# Altium integrated library TI Digital Signal Processor 16-Bit.IntLib: 40 symbols (part 1 of 2)
Pins are listed as number, name and electrical type; pins without a type are passive.

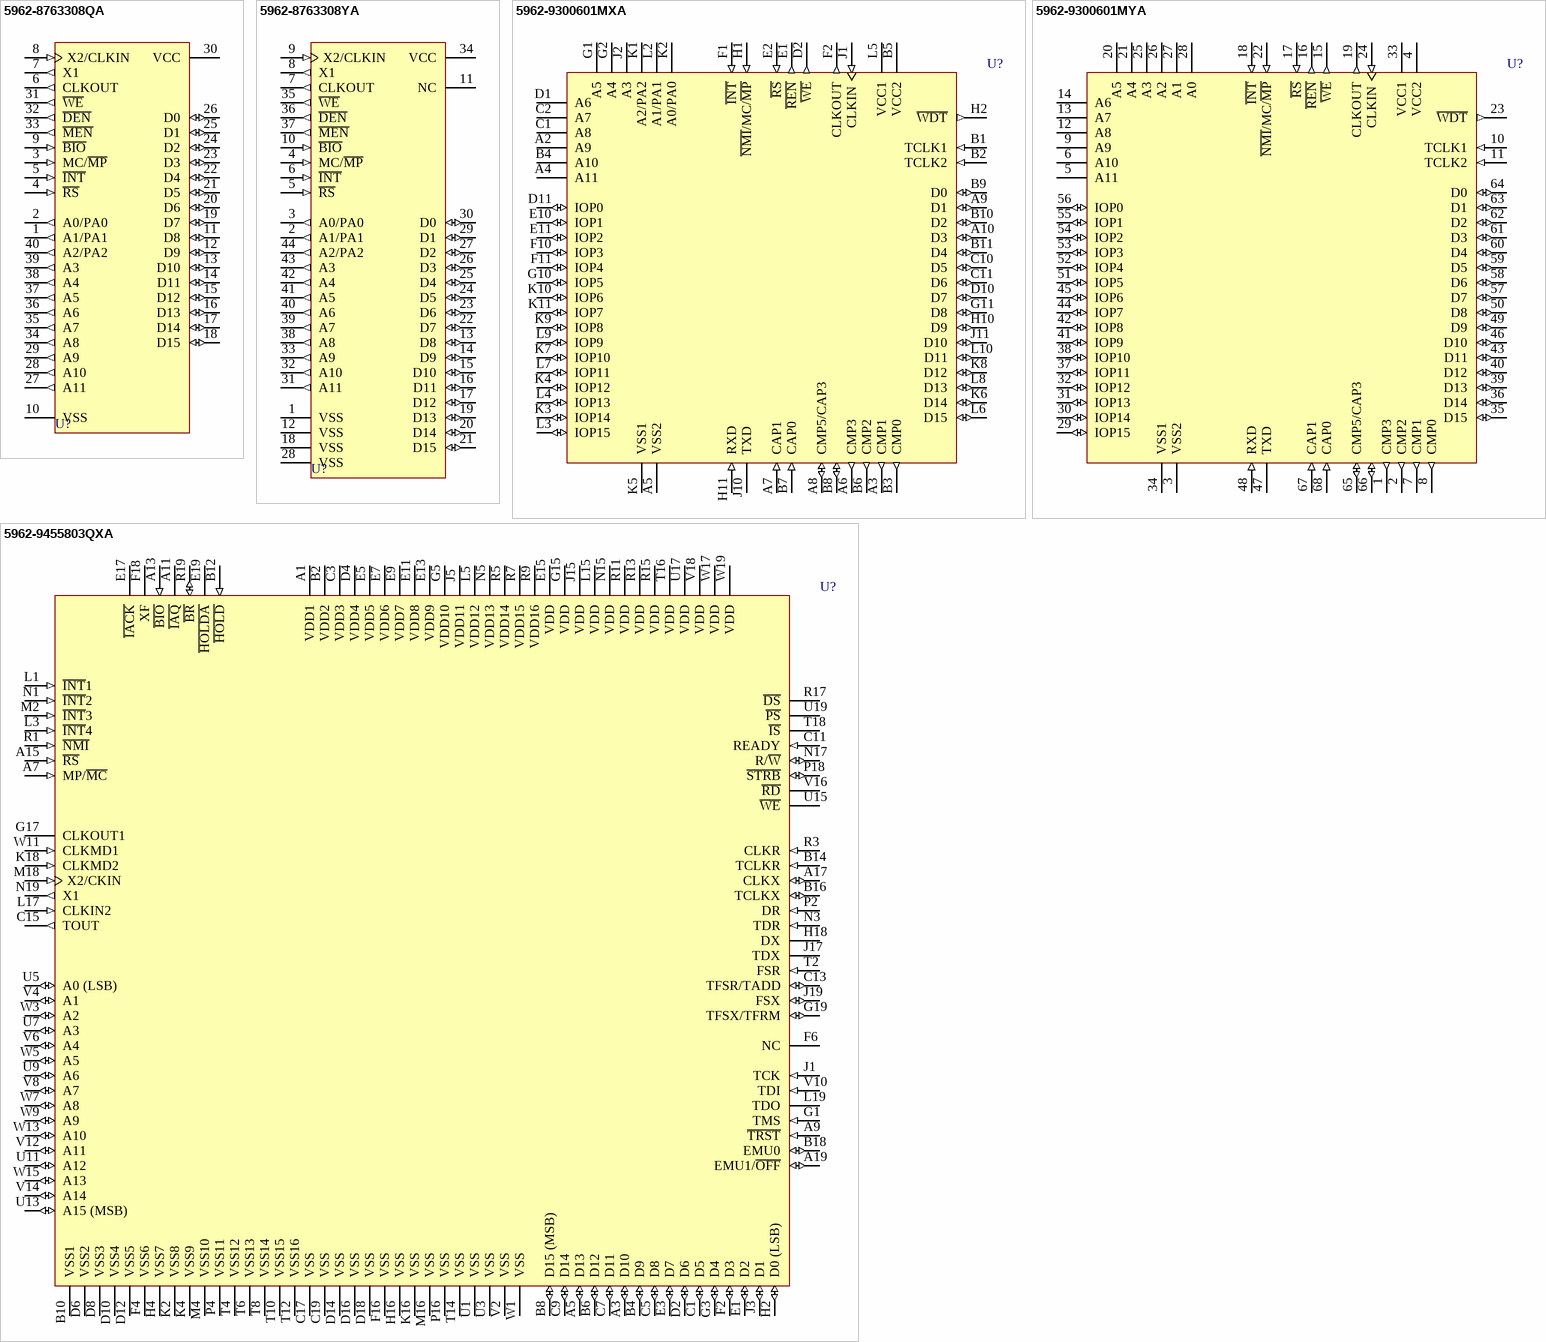
[diagram p0: symbols 5962-8763308QA to 5962-9455803QXA]

## 5962-8763308QA
designator U?
Fixed DSP; Published: 25-Jan-2001; LatestRevisionDate: 08-Jul-2005; LatestRevisionNote: Stylized 3D Model Added.; DatasheetVersion: Jul-1991; PackageVersion: Jan-1998; PackageReference: JD040; Publisher: Altium Limited; PackageDescription: DIP; 40 Leads; Row Spacing 15.24 mm; Pitch 2.54 mm; ComponentLink1Description: Manufacturer Link; ComponentLink1URL: http://www.ti.com/; ComponentLink2Description: Datasheet; ComponentLink2URL: http://www-s.ti.com/sc/ds/tms320c15.pdf
footprint JD040 (DIP; 40 Leads; Row Spacing 15.24 mm; Pitch 2.54 mm)
3D model JD040 (DIP; 40 Leads; Row Spacing 15.24 mm; Pitch 2.54 mm)
pins: 1 A1/PA1 (out), 2 A0/PA0 (out), 3 MC/~{MP} (in), 4 ~{RS} (in), 5 ~{INT} (in), 6 CLKOUT (out), 7 X1 (out), 8 X2/CLKIN (in), 9 ~{BIO} (in), 10 VSS (power), 11 D8 (io), 12 D9 (io), 13 D10 (io), 14 D11 (io), 15 D12 (io), 16 D13 (io), 17 D14 (io), 18 D15 (io), 19 D7 (io), 20 D6 (io), 21 D5 (io), 22 D4 (io), 23 D3 (io), 24 D2 (io), 25 D1 (io), 26 D0 (io), 27 A11 (out), 28 A10 (out), 29 A9 (out), 30 VCC (power), 31 ~{WE} (out), 32 ~{DEN} (out), 33 ~{MEN} (out), 34 A8 (out), 35 A7 (out), 36 A6 (out), 37 A5 (out), 38 A4 (out), 39 A3 (out), 40 A2/PA2 (out)

## 5962-8763308YA
designator U?
Fixed DSP; Published: 25-Jan-2001; LatestRevisionDate: 13-Apr-2006; LatestRevisionNote: IPC-7351 Footprint Added.; DatasheetVersion: Jul-1991; PackageVersion: Jun-1999; PackageReference: FJ44; Publisher: Altium Limited; PackageDescription: 44-Pin Leaded Chip Carrier 1.27 mm Pitch; ComponentLink1Description: Manufacturer Link; ComponentLink1URL: http://www.ti.com/; ComponentLink2Description: Datasheet; ComponentLink2URL: http://www-s.ti.com/sc/ds/tms320c15.pdf
footprint FJ44_N (Leaded Chip Carrier, 44-Leads, Body 16.5x16.5mm, Pitch 1.27mm, IPC Medium Density)
footprint FJ44_L (Leaded Chip Carrier, 44-Leads, Body 16.5x16.5mm, Pitch 1.27mm, IPC High Density)
footprint FJ44_M (Leaded Chip Carrier, 44-Leads, Body 16.5x16.5mm, Pitch 1.27mm, IPC Low Density)
3D model FJ44 (44-Pin Leaded Chip Carrier 1.27 mm Pitch)
pins: 1 VSS (power), 2 A1/PA1 (out), 3 A0/PA0 (out), 4 MC/~{MP} (in), 5 ~{RS} (in), 6 ~{INT} (in), 7 CLKOUT (out), 8 X1 (out), 9 X2/CLKIN (in), 10 ~{BIO} (in), 11 NC, 12 VSS (power), 13 D8 (io), 14 D9 (io), 15 D10 (io), 16 D11 (io), 17 D12 (io), 18 VSS (power), 19 D13 (io), 20 D14 (io), 21 D15 (io), 22 D7 (io), 23 D6 (io), 24 D5 (io), 25 D4 (io), 26 D3 (io), 27 D2 (io), 28 VSS (power), 29 D1 (io), 30 D0 (io), 31 A11 (out), 32 A10 (out), 33 A9 (out), 34 VCC (power), 35 ~{WE} (out), 36 ~{DEN} (out), 37 ~{MEN} (out), 38 A8 (out), 39 A7 (out), 40 A6 (out), 41 A5 (out), 42 A4 (out), 43 A3 (out), 44 A2/PA2 (out)

## 5962-9300601MXA
designator U?
Fixed DSP; Published: 25-Jan-2001; LatestRevisionDate: 08-Jul-2005; LatestRevisionNote: Stylized 3D Model Added.; DatasheetVersion: Sep-1992; PackageVersion: Sep-1992; PackageReference: GB68; Publisher: Altium Limited; PackageDescription: 68-Pin Pin Grid Array 2.54 mm Pitch; ComponentLink1Description: Manufacturer Link; ComponentLink1URL: http://www.ti.com/
footprint GB68 (PGA, 68-Leads, Body 28x28mm, Pitch 2.54mm)
3D model GB68 (68-Pin Pin Grid Array 2.54 mm Pitch)
pins: A2 A9 (hiz), A3 CMP1 (out), A4 A11 (hiz), A5 VSS2 (power), A6 CMP3 (out), A7 CAP1 (in), A8 CMP5/CAP3 (io), A9 D1 (io), A10 D3 (io), B1 TCLK1 (in), B2 TCLK2 (in), B3 CMP0 (out), B4 A10 (hiz), B5 VCC2 (power), B6 CMP2 (out), B7 CAP0 (in), B8 CMP4/CAP2 (io), B9 D0 (io), B10 D2 (io), B11 D4 (io), C1 A8 (hiz), C2 A7 (hiz), C10 D5 (io), C11 D6 (io), D1 A6 (hiz), D2 ~{WE} (out), D10 D7 (io), D11 IOP0 (io), E1 ~{REN} (out), E2 ~{RS} (in), E10 IOP1 (io), E11 IOP2 (io), F1 ~{INT} (in), F2 CLKOUT (out), F10 IOP3 (io), F11 IOP4 (io), G1 A5 (hiz), G2 A4 (hiz), G10 IOP5 (io), G11 D8 (io), H1 ~{NMI}/MC/~{MP} (in), H2 ~{WDT} (out), H10 D9 (io), H11 RXD (in), J1 CLKIN (in), J2 A3 (hiz), J10 TXD (hiz), J11 D10 (io), K1 A2/PA2 (hiz), K2 A0/PA0 (hiz), K3 IOP14 (io), K4 IOP12 (io), K5 VSS1 (power), K6 D14 (io), K7 IOP10 (io), K8 D12 (io), K9 IOP8 (io), K10 IOP6 (io), K11 IOP7 (io), L2 A1/PA1 (hiz), L3 IOP15 (io), L4 IOP13 (io), L5 VCC1 (power), L6 D15 (io), L7 IOP11 (io), L8 D13 (io), L9 IOP9 (io), L10 D11 (io)

## 5962-9300601MYA
designator U?
Fixed DSP; Published: 25-Jan-2001; LatestRevisionDate: 13-Apr-2006; LatestRevisionNote: IPC-7351 Footprint Added.; DatasheetVersion: Sep-1992; PackageVersion: Jun-1999; PackageReference: FJ68; Publisher: Altium Limited; PackageDescription: 68-Pin Leaded Chip Carrier 1.27 mm Pitch; ComponentLink1Description: Manufacturer Link; ComponentLink1URL: http://www.ti.com/
footprint FJ68_N (Leaded Chip Carrier, 68-Leads, Body 24x24mm, Pitch 1.27mm, IPC Medium Density)
footprint FJ68_L (Leaded Chip Carrier, 68-Leads, Body 24x24mm, Pitch 1.27mm, IPC High Density)
footprint FJ68_M (Leaded Chip Carrier, 68-Leads, Body 24x24mm, Pitch 1.27mm, IPC Low Density)
3D model FJ68 (68-Pin Leaded Chip Carrier 1.27 mm Pitch)
pins: 1 CMP3 (out), 2 CMP2 (out), 3 VSS2 (power), 4 VCC2 (power), 5 A11 (hiz), 6 A10 (hiz), 7 CMP1 (out), 8 CMP0 (out), 9 A9 (hiz), 10 TCLK1 (in), 11 TCLK2 (in), 12 A8 (hiz), 13 A7 (hiz), 14 A6 (hiz), 15 ~{WE} (out), 16 ~{REN} (out), 17 ~{RS} (in), 18 ~{INT} (in), 19 CLKOUT (out), 20 A5 (hiz), 21 A4 (hiz), 22 ~{NMI}/MC/~{MP} (in), 23 ~{WDT} (out), 24 CLKIN (in), 25 A3 (hiz), 26 A2 (hiz), 27 A1 (hiz), 28 A0 (hiz), 29 IOP15 (io), 30 IOP14 (io), 31 IOP13 (io), 32 IOP12 (io), 33 VCC1 (power), 34 VSS1 (power), 35 D15 (io), 36 D14 (io), 37 IOP11 (io), 38 IOP10 (io), 39 D13 (io), 40 D12 (io), 41 IOP9 (io), 42 IOP8 (io), 43 D11 (io), 44 IOP7 (io), 45 IOP6 (io), 46 D10 (io), 47 TXD (hiz), 48 RXD (in), 49 D9 (io), 50 D8 (io), 51 IOP5 (io), 52 IOP4 (io), 53 IOP3 (io), 54 IOP2 (io), 55 IOP1 (io), 56 IOP0 (io), 57 D7 (io), 58 D6 (io), 59 D5 (io), 60 D4 (io), 61 D3 (io), 62 D2 (io), 63 D1 (io), 64 D0 (io), 65 CMP5/CAP3 (io), 66 CMP4/CAP2 (io), 67 CAP1 (in), 68 CAP0 (in)

## 5962-9455803QXA
designator U?
Fixed DSP; Published: 25-Jan-2001; LatestRevisionDate: 08-Jul-2005; LatestRevisionNote: Stylized 3D Model Added.; DatasheetVersion: Jun-1996; PackageVersion: Feb-1996; PackageReference: GFA141; Publisher: Altium Limited; PackageDescription: 141-Pin Pin Grid Array 2.54 mm Pitch; ComponentLink1Description: Manufacturer Link; ComponentLink1URL: http://www.ti.com/; ComponentLink2Description: Datasheet; ComponentLink2URL: http://www-s.ti.com/sc/ds/smj320c50.pdf
footprint GFA141 (PGA, 141-Leads, Body 27x27mm, Pitch 2.54mm)
3D model GFA141 (141-Pin Pin Grid Array 2.54 mm Pitch)
pins: A1 VDD1 (power), A3 D10 (io), A5 D13 (io), A7 MP/~{MC} (in), A9 ~{TRST} (in), A11 ~{IAQ} (hiz), A13 ~{BIO} (in), A15 ~{RS} (in), A17 CLKX (io), A19 EMU1/~{OFF} (io), B2 VDD2 (power), B4 D9 (io), B6 D12 (io), B8 D15 (MSB) (io), B10 VSS1 (power), B12 ~{HOLD} (in), B14 TCLKR (in), B16 TCLKX (io), B18 EMU0 (io), C1 D5 (io), C3 VDD3 (power), C5 D8 (io), C7 D11 (io), C9 D14 (io), C11 READY (in), C13 TFSR/TADD (io), C15 TOUT (out), C17 VSS (power), C19 VSS (power), D2 D6 (io), D4 VDD4 (power), D6 VSS2 (power), D8 VSS3 (power), D10 VSS4 (power), D12 VSS5 (power), D14 VSS (power), D16 VSS (power), D18 VSS (power), E1 D2 (io), E3 D7 (io), E5 VDD5 (power), E7 VDD6 (power), E9 VDD7 (power), E11 VDD8 (power), E13 VDD9 (power), E15 VDD (power), E17 ~{IACK} (hiz), E19 ~{HOLDA} (hiz), F2 D3 (io), F4 VSS6 (power), F6 NC, F16 VSS (power), F18 XF (hiz), G1 TMS (in), G3 D4 (io), G5 VDD10 (power), G15 VDD (power), G17 CLKOUT1 (hiz), G19 TFSX/TFRM (io), H2 D0 (LSB) (io), H4 VSS7 (power), H16 VSS (power), H18 DX (hiz), J1 TCK (in), J3 D1 (io), J5 VDD11 (power), J15 VDD (power), J17 TDX (hiz), J19 FSX (io), K2 VSS8 (power), K4 VSS9 (power), K16 VSS (power), K18 CLKMD2 (in), L1 ~{INT}1 (in), L3 ~{INT}4 (in), L5 VDD12 (power), L15 VDD (power), L17 CLKIN2 (in), L19 TDO (hiz), M2 ~{INT}3 (in), M4 VSS10 (power), M16 VSS (power), M18 X2/CKIN (in), N1 ~{INT}2 (in), N3 TDR (in), N5 VDD13 (power), N15 VDD (power), N17 R/~{W} (io), N19 X1 (out), P2 DR (in), P4 VSS11 (power), P16 VSS (power), P18 ~{STRB} (io), R1 ~{NMI} (in), R3 CLKR (in), R5 VDD14 (power), R7 VDD15 (power), R9 VDD16 (power), R11 VDD (power), R13 VDD (power), R15 VDD (power), R17 ~{DS} (hiz), R19 ~{BR} (io), T2 FSR (in), T4 VSS12 (power), T6 VSS13 (power), T8 VSS14 (power), T10 VSS15 (power), T12 VSS16 (power), T14 VSS (power), T16 VDD (power), T18 ~{IS} (hiz), U1 VSS (power), U3 VSS (power), U5 A0 (LSB) (io), U7 A3 (io), U9 A6 (io), U11 A12 (io), U13 A15 (MSB) (io), U15 ~{WE} (hiz), U17 VDD (power), U19 ~{PS} (hiz), V2 VSS (power), V4 A1 (io), V6 A4 (io), V8 A7 (io), V10 TDI (in), V12 A11 (io), V14 A14 (io), V16 ~{RD} (hiz), V18 VDD (power), W1 VSS (power), W3 A2 (io), W5 A5 (io), W7 A8 (io), W9 A9 (io), W11 CLKMD1 (in), W13 A10 (io), W15 A13 (io), W17 VDD (power), W19 VDD (power)

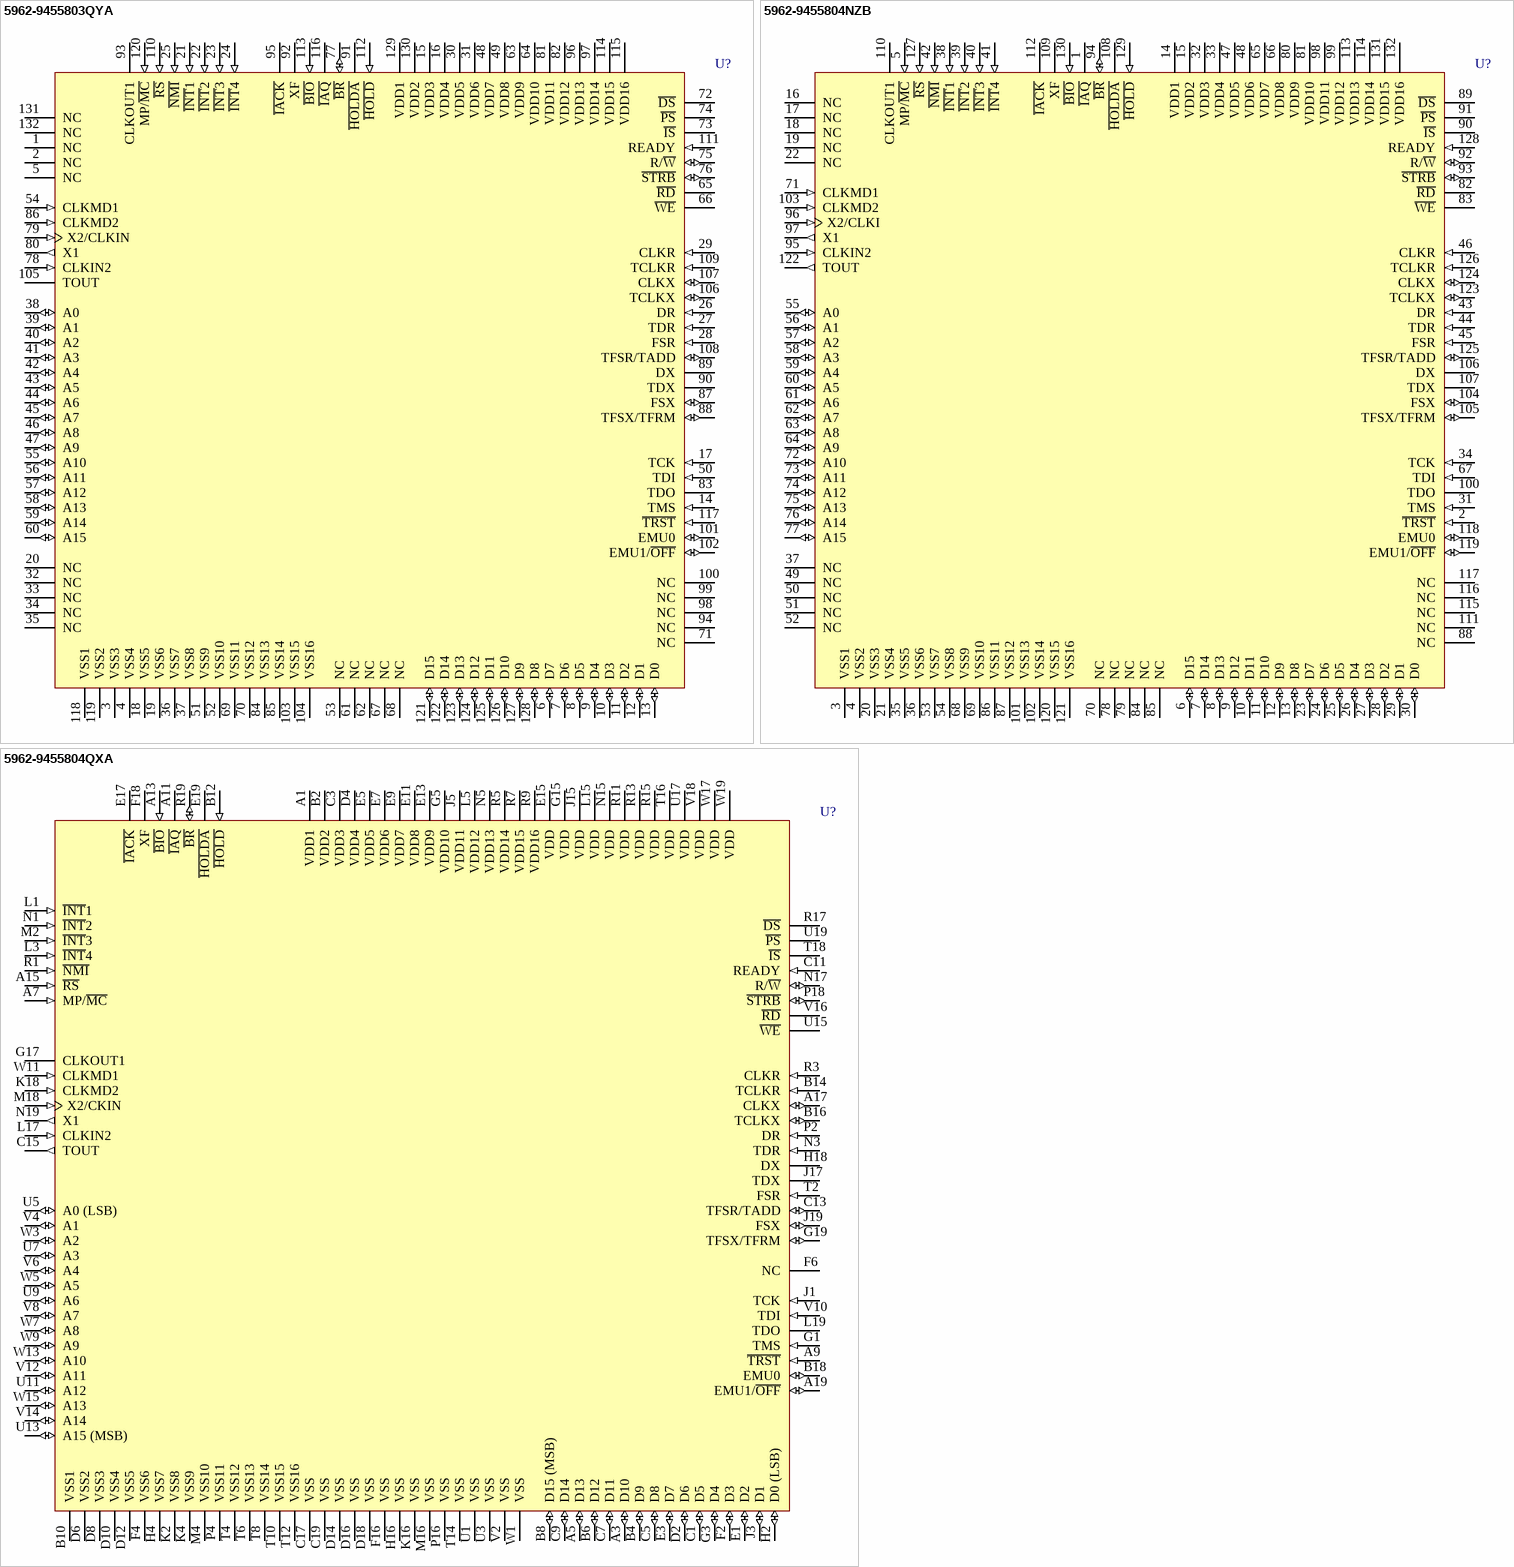
[diagram p1: symbols 5962-9455803QYA to 5962-9455804QXA]

## 5962-9455803QYA
designator U?
Fixed DSP; Published: 25-Jan-2001; LatestRevisionDate: 13-Apr-2006; LatestRevisionNote: IPC-7351 Footprint Added.; DatasheetVersion: Jun-1996; PackageVersion: Jun-1999; PackageReference: HFG132; Publisher: Altium Limited; PackageDescription: 132-Pin Ceramic Quad Flat Pack 0.635 mm Pitch; ComponentLink1Description: Manufacturer Link; ComponentLink1URL: http://www.ti.com/; ComponentLink2Description: Datasheet; ComponentLink2URL: http://www-s.ti.com/sc/ds/smj320c50.pdf
footprint HFG132_N (CQFP, 132-Leads, Body 24x24mm; Pitch 0.635mm, Gullwing Leadform, IPC Medium Density)
footprint HFG132_L (CQFP, 132-Leads, Body 24x24mm; Pitch 0.635mm, Gullwing Leadform, IPC High Density)
footprint HFG132_M (CQFP, 132-Leads, Body 24x24mm; Pitch 0.635mm, Gullwing Leadform, IPC Low Density)
3D model HFG132 (132-Pin Ceramic Quad Flat Pack 0.635 mm Pitch)
pins: 1 NC, 2 NC, 3 VSS3 (power), 4 VSS4 (power), 5 NC, 6 D7 (io), 7 D6 (io), 8 D5 (io), 9 D4 (io), 10 D3 (io), 11 D2 (io), 12 D1 (io), 13 D0 (io), 14 TMS (in), 15 VDD3 (power), 16 VDD4 (power), 17 TCK (in), 18 VSS5 (power), 19 VSS6 (power), 20 NC, 21 ~{INT}1 (in), 22 ~{INT}2 (in), 23 ~{INT}3 (in), 24 ~{INT}4 (in), 25 ~{NMI} (in), 26 DR (in), 27 TDR (in), 28 FSR (in), 29 CLKR (in), 30 VDD5 (power), 31 VDD6 (power), 32 NC, 33 NC, 34 NC, 35 NC, 36 VSS7 (power), 37 VSS8 (power), 38 A0 (io), 39 A1 (io), 40 A2 (io), 41 A3 (io), 42 A4 (io), 43 A5 (io), 44 A6 (io), 45 A7 (io), 46 A8 (io), 47 A9 (io), 48 VDD7 (power), 49 VDD8 (power), 50 TDI (in), 51 VSS9 (power), 52 VSS10 (power), 53 NC, 54 CLKMD1 (in), 55 A10 (io), 56 A11 (io), 57 A12 (io), 58 A13 (io), 59 A14 (io), 60 A15 (io), 61 NC, 62 NC, 63 VDD9 (power), 64 VDD10 (power), 65 ~{RD} (hiz), 66 ~{WE} (hiz), 67 NC, 68 NC, 69 VSS11 (power), 70 VSS12 (power), 71 NC, 72 ~{DS} (hiz), 73 ~{IS} (hiz), 74 ~{PS} (hiz), 75 R/~{W} (io), 76 ~{STRB} (io), 77 ~{BR} (io), 78 CLKIN2 (in), 79 X2/CLKIN (in), 80 X1 (out), 81 VDD11 (power), 82 VDD12 (power), 83 TDO (hiz), 84 VSS13 (power), 85 VSS14 (power), 86 CLKMD2 (in), 87 FSX (io), 88 TFSX/TFRM (io), 89 DX (hiz), 90 TDX (hiz), 91 ~{HOLDA} (hiz), 92 XF (hiz), 93 CLKOUT1 (hiz), 94 NC, 95 ~{IACK} (hiz), 96 VDD13 (power), 97 VDD14 (power), 98 NC, 99 NC, 100 NC, 101 EMU0 (io), 102 EMU1/~{OFF} (io), 103 VSS15 (power), 104 VSS16 (power), 105 TOUT (hiz), 106 TCLKX (io), 107 CLKX (io), 108 TFSR/TADD (io), 109 TCLKR (in), 110 ~{RS} (in), 111 READY (in), 112 ~{HOLD} (in), 113 ~{BIO} (in), 114 VDD15 (power), 115 VDD16 (power), 116 ~{IAQ} (hiz), 117 ~{TRST} (in), 118 VSS1 (power), 119 VSS2 (power), 120 MP/~{MC} (in), 121 D15 (io), 122 D14 (io), 123 D13 (io), 124 D12 (io), 125 D11 (io), 126 D10 (io), 127 D9 (io), 128 D8 (io), 129 VDD1 (power), 130 VDD2 (power), 131 NC, 132 NC

## 5962-9455804NZB
designator U?
Fixed DSP; Published: 25-Jan-2001; LatestRevisionDate: 17-Jul-2002; LatestRevisionNote: Re-released for DXP Platform.; DatasheetVersion: Jun-1996; PackageVersion: Nov-1995; PackageReference: PQ132; Publisher: Altium Limited; PackageDescription: PQFP; 132 Leads; Body 24 x 24 mm; Pitch 0.635 mm; Code_JEDEC: MO-069; ComponentLink1Description: Manufacturer Link; ComponentLink1URL: http://www.ti.com/; ComponentLink2Description: Datasheet; ComponentLink2URL: http://www-s.ti.com/sc/ds/smj320c50.pdf
footprint PQ132 (PQFP; 132 Leads; Body 24 x 24 mm; Pitch 0.635 mm)
pins: 1 ~{IAQ} (hiz), 2 ~{TRST} (in), 3 VSS1 (power), 4 VSS2 (power), 5 MP/~{MC} (in), 6 D15 (io), 7 D14 (io), 8 D13 (io), 9 D12 (io), 10 D11 (io), 11 D10 (io), 12 D9 (io), 13 D8 (io), 14 VDD1 (power), 15 VDD2 (power), 16 NC, 17 NC, 18 NC, 19 NC, 20 VSS3 (power), 21 VSS4 (power), 22 NC, 23 D7 (io), 24 D6 (io), 25 D5 (io), 26 D4 (io), 27 D3 (io), 28 D2 (io), 29 D1 (io), 30 D0 (io), 31 TMS (in), 32 VDD3 (power), 33 VDD4 (power), 34 TCK (in), 35 VSS5 (power), 36 VSS6 (power), 37 NC, 38 ~{INT}1 (in), 39 ~{INT}2 (in), 40 ~{INT}3 (in), 41 ~{INT}4 (in), 42 ~{NMI} (in), 43 DR (in), 44 TDR (in), 45 FSR (in), 46 CLKR (in), 47 VDD5 (power), 48 VDD6 (power), 49 NC, 50 NC, 51 NC, 52 NC, 53 VSS7 (power), 54 VSS8 (power), 55 A0 (io), 56 A1 (io), 57 A2 (io), 58 A3 (io), 59 A4 (io), 60 A5 (io), 61 A6 (io), 62 A7 (io), 63 A8 (io), 64 A9 (io), 65 VDD7 (power), 66 VDD8 (power), 67 TDI (in), 68 VSS9 (power), 69 VSS10 (power), 70 NC, 71 CLKMD1 (in), 72 A10 (io), 73 A11 (io), 74 A12 (io), 75 A13 (io), 76 A14 (io), 77 A15 (io), 78 NC, 79 NC, 80 VDD9 (power), 81 VDD10 (power), 82 ~{RD} (hiz), 83 ~{WE} (hiz), 84 NC, 85 NC, 86 VSS11 (power), 87 VSS12 (power), 88 NC, 89 ~{DS} (hiz), 90 ~{IS} (hiz), 91 ~{PS} (hiz), 92 R/~{W} (io), 93 ~{STRB} (io), 94 ~{BR} (io), 95 CLKIN2 (in), 96 X2/CLKI (in), 97 X1 (out), 98 VDD11 (power), 99 VDD12 (power), 100 TDO (hiz), 101 VSS13 (power), 102 VSS14 (power), 103 CLKMD2 (in), 104 FSX (io), 105 TFSX/TFRM (io), 106 DX (hiz), 107 TDX (hiz), 108 ~{HOLDA} (hiz), 109 XF (hiz), 110 CLKOUT1 (hiz), 111 NC, 112 ~{IACK} (hiz), 113 VDD13 (power), 114 VDD14 (power), 115 NC, 116 NC, 117 NC, 118 EMU0 (io), 119 EMU1/~{OFF} (io), 120 VSS15 (power), 121 VSS16 (power), 122 TOUT (out), 123 TCLKX (io), 124 CLKX (io), 125 TFSR/TADD (io), 126 TCLKR (in), 127 ~{RS} (in), 128 READY (in), 129 ~{HOLD} (in), 130 ~{BIO} (in), 131 VDD15 (power), 132 VDD16 (power)

## 5962-9455804QXA
designator U?
Fixed DSP; Published: 25-Jan-2001; LatestRevisionDate: 08-Jul-2005; LatestRevisionNote: Stylized 3D Model Added.; DatasheetVersion: Jun-1996; PackageVersion: Feb-1996; PackageReference: GFA141; Publisher: Altium Limited; PackageDescription: 141-Pin Pin Grid Array 2.54 mm Pitch; ComponentLink1Description: Manufacturer Link; ComponentLink1URL: http://www.ti.com/; ComponentLink2Description: Datasheet; ComponentLink2URL: http://www-s.ti.com/sc/ds/smj320c50.pdf
footprint GFA141 (PGA, 141-Leads, Body 27x27mm, Pitch 2.54mm)
3D model GFA141 (141-Pin Pin Grid Array 2.54 mm Pitch)
pins: A1 VDD1 (power), A3 D10 (io), A5 D13 (io), A7 MP/~{MC} (in), A9 ~{TRST} (in), A11 ~{IAQ} (hiz), A13 ~{BIO} (in), A15 ~{RS} (in), A17 CLKX (io), A19 EMU1/~{OFF} (io), B2 VDD2 (power), B4 D9 (io), B6 D12 (io), B8 D15 (MSB) (io), B10 VSS1 (power), B12 ~{HOLD} (in), B14 TCLKR (in), B16 TCLKX (io), B18 EMU0 (io), C1 D5 (io), C3 VDD3 (power), C5 D8 (io), C7 D11 (io), C9 D14 (io), C11 READY (in), C13 TFSR/TADD (io), C15 TOUT (out), C17 VSS (power), C19 VSS (power), D2 D6 (io), D4 VDD4 (power), D6 VSS2 (power), D8 VSS3 (power), D10 VSS4 (power), D12 VSS5 (power), D14 VSS (power), D16 VSS (power), D18 VSS (power), E1 D2 (io), E3 D7 (io), E5 VDD5 (power), E7 VDD6 (power), E9 VDD7 (power), E11 VDD8 (power), E13 VDD9 (power), E15 VDD (power), E17 ~{IACK} (hiz), E19 ~{HOLDA} (hiz), F2 D3 (io), F4 VSS6 (power), F6 NC, F16 VSS (power), F18 XF (hiz), G1 TMS (in), G3 D4 (io), G5 VDD10 (power), G15 VDD (power), G17 CLKOUT1 (hiz), G19 TFSX/TFRM (io), H2 D0 (LSB) (io), H4 VSS7 (power), H16 VSS (power), H18 DX (hiz), J1 TCK (in), J3 D1 (io), J5 VDD11 (power), J15 VDD (power), J17 TDX (hiz), J19 FSX (io), K2 VSS8 (power), K4 VSS9 (power), K16 VSS (power), K18 CLKMD2 (in), L1 ~{INT}1 (in), L3 ~{INT}4 (in), L5 VDD12 (power), L15 VDD (power), L17 CLKIN2 (in), L19 TDO (hiz), M2 ~{INT}3 (in), M4 VSS10 (power), M16 VSS (power), M18 X2/CKIN (in), N1 ~{INT}2 (in), N3 TDR (in), N5 VDD13 (power), N15 VDD (power), N17 R/~{W} (io), N19 X1 (out), P2 DR (in), P4 VSS11 (power), P16 VSS (power), P18 ~{STRB} (io), R1 ~{NMI} (in), R3 CLKR (in), R5 VDD14 (power), R7 VDD15 (power), R9 VDD16 (power), R11 VDD (power), R13 VDD (power), R15 VDD (power), R17 ~{DS} (hiz), R19 ~{BR} (io), T2 FSR (in), T4 VSS12 (power), T6 VSS13 (power), T8 VSS14 (power), T10 VSS15 (power), T12 VSS16 (power), T14 VSS (power), T16 VDD (power), T18 ~{IS} (hiz), U1 VSS (power), U3 VSS (power), U5 A0 (LSB) (io), U7 A3 (io), U9 A6 (io), U11 A12 (io), U13 A15 (MSB) (io), U15 ~{WE} (hiz), U17 VDD (power), U19 ~{PS} (hiz), V2 VSS (power), V4 A1 (io), V6 A4 (io), V8 A7 (io), V10 TDI (in), V12 A11 (io), V14 A14 (io), V16 ~{RD} (hiz), V18 VDD (power), W1 VSS (power), W3 A2 (io), W5 A5 (io), W7 A8 (io), W9 A9 (io), W11 CLKMD1 (in), W13 A10 (io), W15 A13 (io), W17 VDD (power), W19 VDD (power)

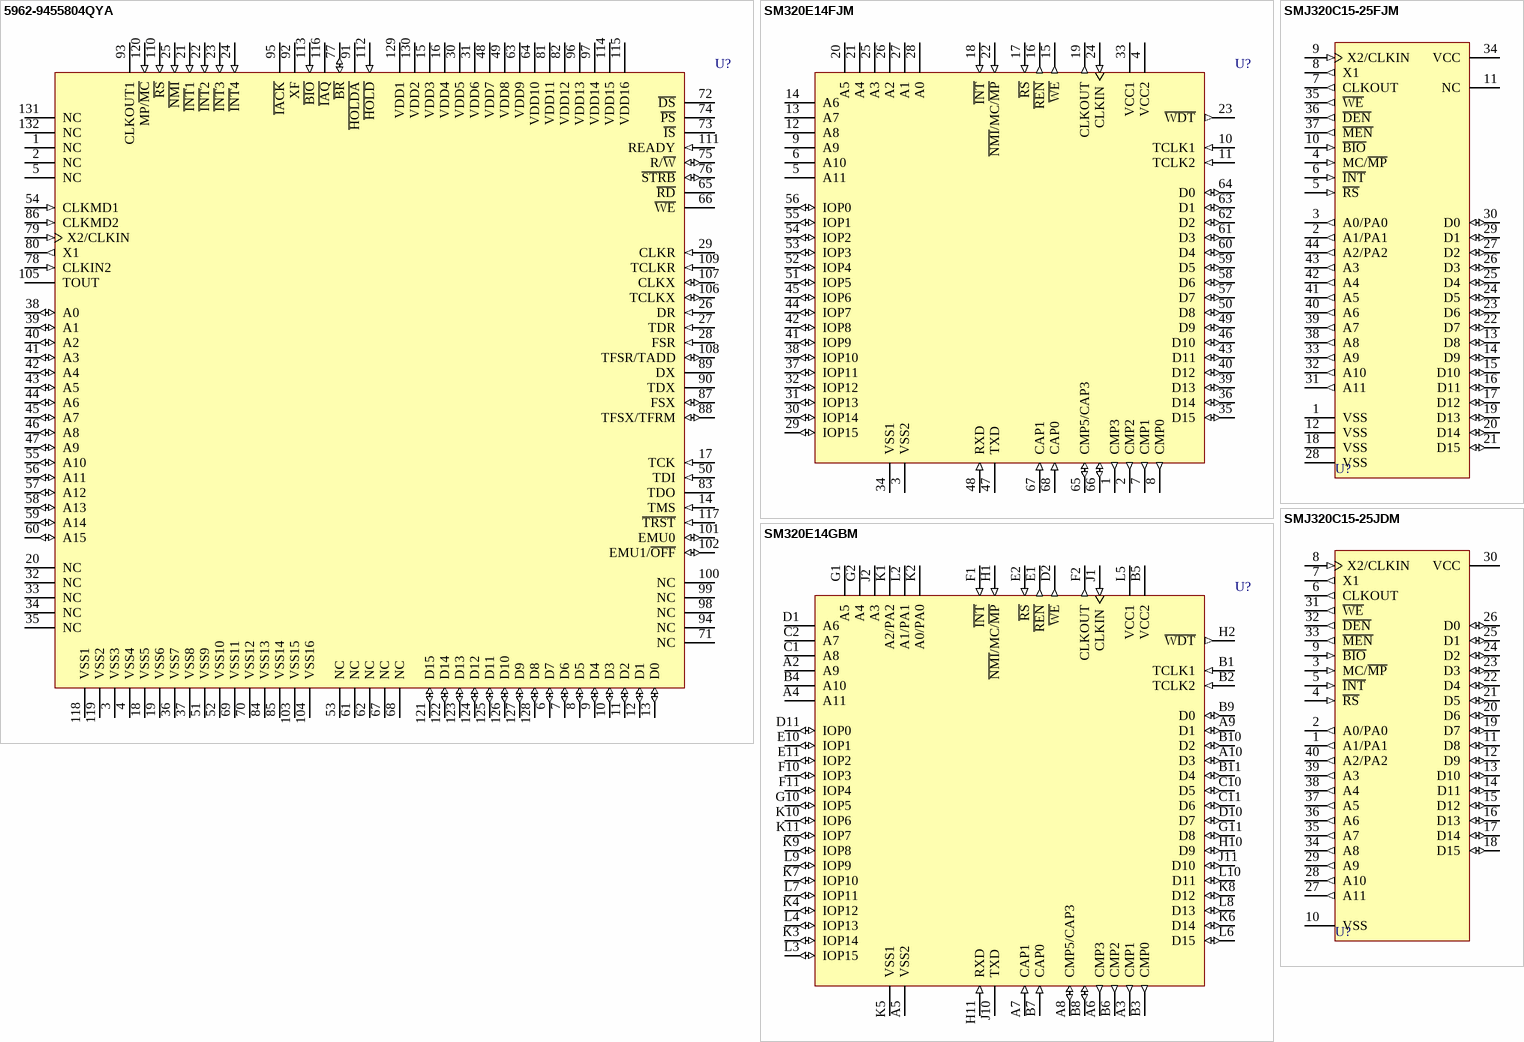
[diagram p2: symbols 5962-9455804QYA to SMJ320C15-25JDM]

## 5962-9455804QYA
designator U?
Fixed DSP; Published: 25-Jan-2001; LatestRevisionDate: 13-Apr-2006; LatestRevisionNote: IPC-7351 Footprint Added.; DatasheetVersion: Jun-1996; PackageVersion: Jun-1999; PackageReference: HFG132; Publisher: Altium Limited; PackageDescription: 132-Pin Ceramic Quad Flat Pack 0.635 mm Pitch; ComponentLink1Description: Manufacturer Link; ComponentLink1URL: http://www.ti.com/; ComponentLink2Description: Datasheet; ComponentLink2URL: http://www-s.ti.com/sc/ds/smj320c50.pdf
footprint HFG132_N (CQFP, 132-Leads, Body 24x24mm; Pitch 0.635mm, Gullwing Leadform, IPC Medium Density)
footprint HFG132_L (CQFP, 132-Leads, Body 24x24mm; Pitch 0.635mm, Gullwing Leadform, IPC High Density)
footprint HFG132_M (CQFP, 132-Leads, Body 24x24mm; Pitch 0.635mm, Gullwing Leadform, IPC Low Density)
3D model HFG132 (132-Pin Ceramic Quad Flat Pack 0.635 mm Pitch)
pins: 1 NC, 2 NC, 3 VSS3 (power), 4 VSS4 (power), 5 NC, 6 D7 (io), 7 D6 (io), 8 D5 (io), 9 D4 (io), 10 D3 (io), 11 D2 (io), 12 D1 (io), 13 D0 (io), 14 TMS (in), 15 VDD3 (power), 16 VDD4 (power), 17 TCK (in), 18 VSS5 (power), 19 VSS6 (power), 20 NC, 21 ~{INT}1 (in), 22 ~{INT}2 (in), 23 ~{INT}3 (in), 24 ~{INT}4 (in), 25 ~{NMI} (in), 26 DR (in), 27 TDR (in), 28 FSR (in), 29 CLKR (in), 30 VDD5 (power), 31 VDD6 (power), 32 NC, 33 NC, 34 NC, 35 NC, 36 VSS7 (power), 37 VSS8 (power), 38 A0 (io), 39 A1 (io), 40 A2 (io), 41 A3 (io), 42 A4 (io), 43 A5 (io), 44 A6 (io), 45 A7 (io), 46 A8 (io), 47 A9 (io), 48 VDD7 (power), 49 VDD8 (power), 50 TDI (in), 51 VSS9 (power), 52 VSS10 (power), 53 NC, 54 CLKMD1 (in), 55 A10 (io), 56 A11 (io), 57 A12 (io), 58 A13 (io), 59 A14 (io), 60 A15 (io), 61 NC, 62 NC, 63 VDD9 (power), 64 VDD10 (power), 65 ~{RD} (hiz), 66 ~{WE} (hiz), 67 NC, 68 NC, 69 VSS11 (power), 70 VSS12 (power), 71 NC, 72 ~{DS} (hiz), 73 ~{IS} (hiz), 74 ~{PS} (hiz), 75 R/~{W} (io), 76 ~{STRB} (io), 77 ~{BR} (io), 78 CLKIN2 (in), 79 X2/CLKIN (in), 80 X1 (out), 81 VDD11 (power), 82 VDD12 (power), 83 TDO (hiz), 84 VSS13 (power), 85 VSS14 (power), 86 CLKMD2 (in), 87 FSX (io), 88 TFSX/TFRM (io), 89 DX (hiz), 90 TDX (hiz), 91 ~{HOLDA} (hiz), 92 XF (hiz), 93 CLKOUT1 (hiz), 94 NC, 95 ~{IACK} (hiz), 96 VDD13 (power), 97 VDD14 (power), 98 NC, 99 NC, 100 NC, 101 EMU0 (io), 102 EMU1/~{OFF} (io), 103 VSS15 (power), 104 VSS16 (power), 105 TOUT (hiz), 106 TCLKX (io), 107 CLKX (io), 108 TFSR/TADD (io), 109 TCLKR (in), 110 ~{RS} (in), 111 READY (in), 112 ~{HOLD} (in), 113 ~{BIO} (in), 114 VDD15 (power), 115 VDD16 (power), 116 ~{IAQ} (hiz), 117 ~{TRST} (in), 118 VSS1 (power), 119 VSS2 (power), 120 MP/~{MC} (in), 121 D15 (io), 122 D14 (io), 123 D13 (io), 124 D12 (io), 125 D11 (io), 126 D10 (io), 127 D9 (io), 128 D8 (io), 129 VDD1 (power), 130 VDD2 (power), 131 NC, 132 NC

## SM320E14FJM
designator U?
Fixed DSP; ComponentAvailability: Obsolete; Published: 25-Jan-2001; LatestRevisionDate: 13-Apr-2006; LatestRevisionNote: IPC-7351 Footprint Added.; DatasheetVersion: Sep-1992; PackageVersion: Jun-1999; PackageReference: FJ68; Publisher: Altium Limited; PackageDescription: 68-Pin Leaded Chip Carrier 1.27 mm Pitch; ComponentLink1Description: Manufacturer Link; ComponentLink1URL: http://www.ti.com/; ComponentLink2Description: Discontinuation Notice; ComponentLink2URL: http://focus.ti.com/pdfs/mltry/obsolete.pdf
footprint FJ68_N (Leaded Chip Carrier, 68-Leads, Body 24x24mm, Pitch 1.27mm, IPC Medium Density)
footprint FJ68_L (Leaded Chip Carrier, 68-Leads, Body 24x24mm, Pitch 1.27mm, IPC High Density)
footprint FJ68_M (Leaded Chip Carrier, 68-Leads, Body 24x24mm, Pitch 1.27mm, IPC Low Density)
3D model SM320E14-FJ68 (68-Pin Leaded Chip Carrier 1.27 mm Pitch)
pins: 1 CMP3 (out), 2 CMP2 (out), 3 VSS2 (power), 4 VCC2 (power), 5 A11 (hiz), 6 A10 (hiz), 7 CMP1 (out), 8 CMP0 (out), 9 A9 (hiz), 10 TCLK1 (in), 11 TCLK2 (in), 12 A8 (hiz), 13 A7 (hiz), 14 A6 (hiz), 15 ~{WE} (out), 16 ~{REN} (out), 17 ~{RS} (in), 18 ~{INT} (in), 19 CLKOUT (out), 20 A5 (hiz), 21 A4 (hiz), 22 ~{NMI}/MC/~{MP} (in), 23 ~{WDT} (out), 24 CLKIN (in), 25 A3 (hiz), 26 A2 (hiz), 27 A1 (hiz), 28 A0 (hiz), 29 IOP15 (io), 30 IOP14 (io), 31 IOP13 (io), 32 IOP12 (io), 33 VCC1 (power), 34 VSS1 (power), 35 D15 (io), 36 D14 (io), 37 IOP11 (io), 38 IOP10 (io), 39 D13 (io), 40 D12 (io), 41 IOP9 (io), 42 IOP8 (io), 43 D11 (io), 44 IOP7 (io), 45 IOP6 (io), 46 D10 (io), 47 TXD (hiz), 48 RXD (in), 49 D9 (io), 50 D8 (io), 51 IOP5 (io), 52 IOP4 (io), 53 IOP3 (io), 54 IOP2 (io), 55 IOP1 (io), 56 IOP0 (io), 57 D7 (io), 58 D6 (io), 59 D5 (io), 60 D4 (io), 61 D3 (io), 62 D2 (io), 63 D1 (io), 64 D0 (io), 65 CMP5/CAP3 (io), 66 CMP4/CAP2 (io), 67 CAP1 (in), 68 CAP0 (in)

## SM320E14GBM
designator U?
Fixed DSP; ComponentAvailability: Obsolete; Published: 25-Jan-2001; LatestRevisionDate: 08-Jul-2005; LatestRevisionNote: Stylized 3D Model Added.; DatasheetVersion: Sep-1992; PackageVersion: Sep-1992; PackageReference: GB68; Publisher: Altium Limited; PackageDescription: 68-Pin Pin Grid Array 2.54 mm Pitch; ComponentLink1Description: Manufacturer Link; ComponentLink1URL: http://www.ti.com/; ComponentLink2Description: Discontinuation Notice; ComponentLink2URL: http://focus.ti.com/pdfs/mltry/obsolete.pdf
footprint GB68 (PGA, 68-Leads, Body 28x28mm, Pitch 2.54mm)
3D model SM320E14-GB68 (68-Pin Pin Grid Array 2.54 mm Pitch)
pins: A2 A9 (hiz), A3 CMP1 (out), A4 A11 (hiz), A5 VSS2 (power), A6 CMP3 (out), A7 CAP1 (in), A8 CMP5/CAP3 (io), A9 D1 (io), A10 D3 (io), B1 TCLK1 (in), B2 TCLK2 (in), B3 CMP0 (out), B4 A10 (hiz), B5 VCC2 (power), B6 CMP2 (out), B7 CAP0 (in), B8 CMP4/CAP2 (io), B9 D0 (io), B10 D2 (io), B11 D4 (io), C1 A8 (hiz), C2 A7 (hiz), C10 D5 (io), C11 D6 (io), D1 A6 (hiz), D2 ~{WE} (out), D10 D7 (io), D11 IOP0 (io), E1 ~{REN} (out), E2 ~{RS} (in), E10 IOP1 (io), E11 IOP2 (io), F1 ~{INT} (in), F2 CLKOUT (out), F10 IOP3 (io), F11 IOP4 (io), G1 A5 (hiz), G2 A4 (hiz), G10 IOP5 (io), G11 D8 (io), H1 ~{NMI}/MC/~{MP} (in), H2 ~{WDT} (out), H10 D9 (io), H11 RXD (in), J1 CLKIN (in), J2 A3 (hiz), J10 TXD (hiz), J11 D10 (io), K1 A2/PA2 (hiz), K2 A0/PA0 (hiz), K3 IOP14 (io), K4 IOP12 (io), K5 VSS1 (power), K6 D14 (io), K7 IOP10 (io), K8 D12 (io), K9 IOP8 (io), K10 IOP6 (io), K11 IOP7 (io), L2 A1/PA1 (hiz), L3 IOP15 (io), L4 IOP13 (io), L5 VCC1 (power), L6 D15 (io), L7 IOP11 (io), L8 D13 (io), L9 IOP9 (io), L10 D11 (io)

## SMJ320C15-25FJM
designator U?
Fixed DSP; Published: 25-Jan-2001; LatestRevisionDate: 13-Apr-2006; LatestRevisionNote: IPC-7351 Footprint Added.; DatasheetVersion: Jul-1991; PackageVersion: Jun-1999; PackageReference: FJ44; Publisher: Altium Limited; PackageDescription: 44-Pin Leaded Chip Carrier 1.27 mm Pitch; ComponentLink1Description: Manufacturer Link; ComponentLink1URL: http://www.ti.com/; ComponentLink2Description: Datasheet; ComponentLink2URL: http://www-s.ti.com/sc/ds/tms320c15.pdf
footprint FJ44_N (Leaded Chip Carrier, 44-Leads, Body 16.5x16.5mm, Pitch 1.27mm, IPC Medium Density)
footprint FJ44_L (Leaded Chip Carrier, 44-Leads, Body 16.5x16.5mm, Pitch 1.27mm, IPC High Density)
footprint FJ44_M (Leaded Chip Carrier, 44-Leads, Body 16.5x16.5mm, Pitch 1.27mm, IPC Low Density)
3D model SMJ320C15-FJ44 (44-Pin Leaded Chip Carrier 1.27 mm Pitch)
pins: 1 VSS (power), 2 A1/PA1 (out), 3 A0/PA0 (out), 4 MC/~{MP} (in), 5 ~{RS} (in), 6 ~{INT} (in), 7 CLKOUT (out), 8 X1 (out), 9 X2/CLKIN (in), 10 ~{BIO} (in), 11 NC, 12 VSS (power), 13 D8 (io), 14 D9 (io), 15 D10 (io), 16 D11 (io), 17 D12 (io), 18 VSS (power), 19 D13 (io), 20 D14 (io), 21 D15 (io), 22 D7 (io), 23 D6 (io), 24 D5 (io), 25 D4 (io), 26 D3 (io), 27 D2 (io), 28 VSS (power), 29 D1 (io), 30 D0 (io), 31 A11 (out), 32 A10 (out), 33 A9 (out), 34 VCC (power), 35 ~{WE} (out), 36 ~{DEN} (out), 37 ~{MEN} (out), 38 A8 (out), 39 A7 (out), 40 A6 (out), 41 A5 (out), 42 A4 (out), 43 A3 (out), 44 A2/PA2 (out)

## SMJ320C15-25JDM
designator U?
Fixed DSP; Published: 25-Jan-2001; LatestRevisionDate: 08-Jul-2005; LatestRevisionNote: Stylized 3D Model Added.; DatasheetVersion: Jul-1991; PackageVersion: Jan-1998; PackageReference: JD040; Publisher: Altium Limited; PackageDescription: DIP; 40 Leads; Row Spacing 15.24 mm; Pitch 2.54 mm; ComponentLink1Description: Manufacturer Link; ComponentLink1URL: http://www.ti.com/; ComponentLink2Description: Datasheet; ComponentLink2URL: http://www-s.ti.com/sc/ds/tms320c15.pdf
footprint JD040 (DIP; 40 Leads; Row Spacing 15.24 mm; Pitch 2.54 mm)
3D model JD040 (DIP; 40 Leads; Row Spacing 15.24 mm; Pitch 2.54 mm)
pins: 1 A1/PA1 (out), 2 A0/PA0 (out), 3 MC/~{MP} (in), 4 ~{RS} (in), 5 ~{INT} (in), 6 CLKOUT (out), 7 X1 (out), 8 X2/CLKIN (in), 9 ~{BIO} (in), 10 VSS (power), 11 D8 (io), 12 D9 (io), 13 D10 (io), 14 D11 (io), 15 D12 (io), 16 D13 (io), 17 D14 (io), 18 D15 (io), 19 D7 (io), 20 D6 (io), 21 D5 (io), 22 D4 (io), 23 D3 (io), 24 D2 (io), 25 D1 (io), 26 D0 (io), 27 A11 (out), 28 A10 (out), 29 A9 (out), 30 VCC (power), 31 ~{WE} (out), 32 ~{DEN} (out), 33 ~{MEN} (out), 34 A8 (out), 35 A7 (out), 36 A6 (out), 37 A5 (out), 38 A4 (out), 39 A3 (out), 40 A2/PA2 (out)

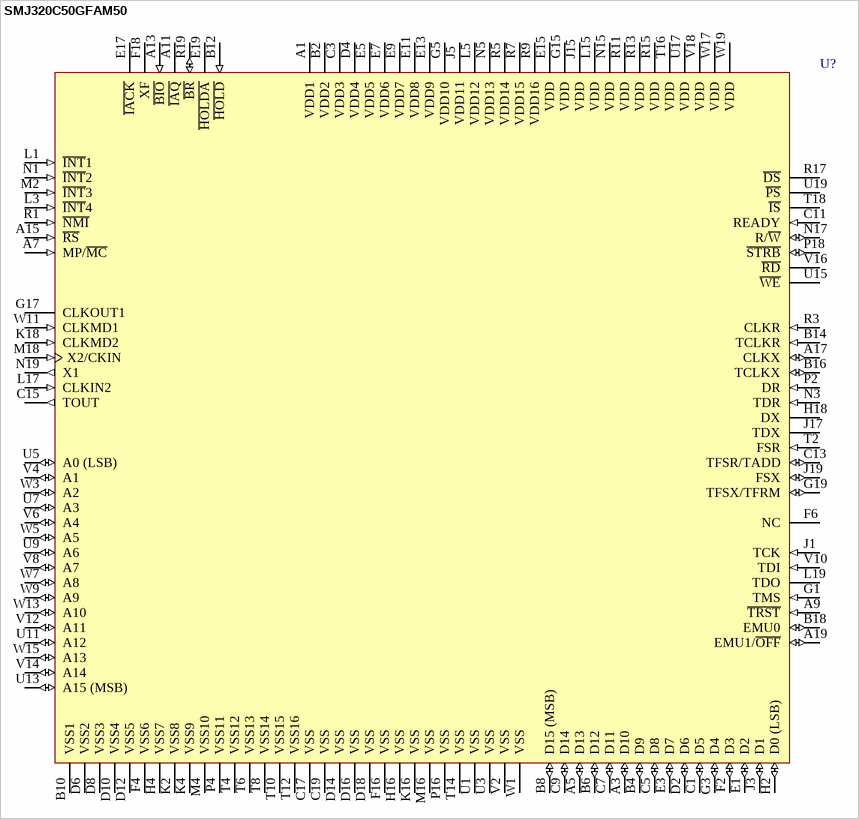
[diagram p3: symbol SMJ320C50GFAM50]

## SMJ320C50GFAM50
designator U?
Fixed DSP; Published: 25-Jan-2001; LatestRevisionDate: 08-Jul-2005; LatestRevisionNote: Stylized 3D Model Added.; DatasheetVersion: Jun-1996; PackageVersion: Feb-1996; PackageReference: GFA141; Publisher: Altium Limited; PackageDescription: 141-Pin Pin Grid Array 2.54 mm Pitch; ComponentLink1Description: Manufacturer Link; ComponentLink1URL: http://www.ti.com/; ComponentLink2Description: Datasheet; ComponentLink2URL: http://www-s.ti.com/sc/ds/smj320c50.pdf
footprint GFA141 (PGA, 141-Leads, Body 27x27mm, Pitch 2.54mm)
3D model SMJ320C50-GFA141 (141-Pin Pin Grid Array 2.54 mm Pitch)
pins: A1 VDD1 (power), A3 D10 (io), A5 D13 (io), A7 MP/~{MC} (in), A9 ~{TRST} (in), A11 ~{IAQ} (hiz), A13 ~{BIO} (in), A15 ~{RS} (in), A17 CLKX (io), A19 EMU1/~{OFF} (io), B2 VDD2 (power), B4 D9 (io), B6 D12 (io), B8 D15 (MSB) (io), B10 VSS1 (power), B12 ~{HOLD} (in), B14 TCLKR (in), B16 TCLKX (io), B18 EMU0 (io), C1 D5 (io), C3 VDD3 (power), C5 D8 (io), C7 D11 (io), C9 D14 (io), C11 READY (in), C13 TFSR/TADD (io), C15 TOUT (out), C17 VSS (power), C19 VSS (power), D2 D6 (io), D4 VDD4 (power), D6 VSS2 (power), D8 VSS3 (power), D10 VSS4 (power), D12 VSS5 (power), D14 VSS (power), D16 VSS (power), D18 VSS (power), E1 D2 (io), E3 D7 (io), E5 VDD5 (power), E7 VDD6 (power), E9 VDD7 (power), E11 VDD8 (power), E13 VDD9 (power), E15 VDD (power), E17 ~{IACK} (hiz), E19 ~{HOLDA} (hiz), F2 D3 (io), F4 VSS6 (power), F6 NC, F16 VSS (power), F18 XF (hiz), G1 TMS (in), G3 D4 (io), G5 VDD10 (power), G15 VDD (power), G17 CLKOUT1 (hiz), G19 TFSX/TFRM (io), H2 D0 (LSB) (io), H4 VSS7 (power), H16 VSS (power), H18 DX (hiz), J1 TCK (in), J3 D1 (io), J5 VDD11 (power), J15 VDD (power), J17 TDX (hiz), J19 FSX (io), K2 VSS8 (power), K4 VSS9 (power), K16 VSS (power), K18 CLKMD2 (in), L1 ~{INT}1 (in), L3 ~{INT}4 (in), L5 VDD12 (power), L15 VDD (power), L17 CLKIN2 (in), L19 TDO (hiz), M2 ~{INT}3 (in), M4 VSS10 (power), M16 VSS (power), M18 X2/CKIN (in), N1 ~{INT}2 (in), N3 TDR (in), N5 VDD13 (power), N15 VDD (power), N17 R/~{W} (io), N19 X1 (out), P2 DR (in), P4 VSS11 (power), P16 VSS (power), P18 ~{STRB} (io), R1 ~{NMI} (in), R3 CLKR (in), R5 VDD14 (power), R7 VDD15 (power), R9 VDD16 (power), R11 VDD (power), R13 VDD (power), R15 VDD (power), R17 ~{DS} (hiz), R19 ~{BR} (io), T2 FSR (in), T4 VSS12 (power), T6 VSS13 (power), T8 VSS14 (power), T10 VSS15 (power), T12 VSS16 (power), T14 VSS (power), T16 VDD (power), T18 ~{IS} (hiz), U1 VSS (power), U3 VSS (power), U5 A0 (LSB) (io), U7 A3 (io), U9 A6 (io), U11 A12 (io), U13 A15 (MSB) (io), U15 ~{WE} (hiz), U17 VDD (power), U19 ~{PS} (hiz), V2 VSS (power), V4 A1 (io), V6 A4 (io), V8 A7 (io), V10 TDI (in), V12 A11 (io), V14 A14 (io), V16 ~{RD} (hiz), V18 VDD (power), W1 VSS (power), W3 A2 (io), W5 A5 (io), W7 A8 (io), W9 A9 (io), W11 CLKMD1 (in), W13 A10 (io), W15 A13 (io), W17 VDD (power), W19 VDD (power)

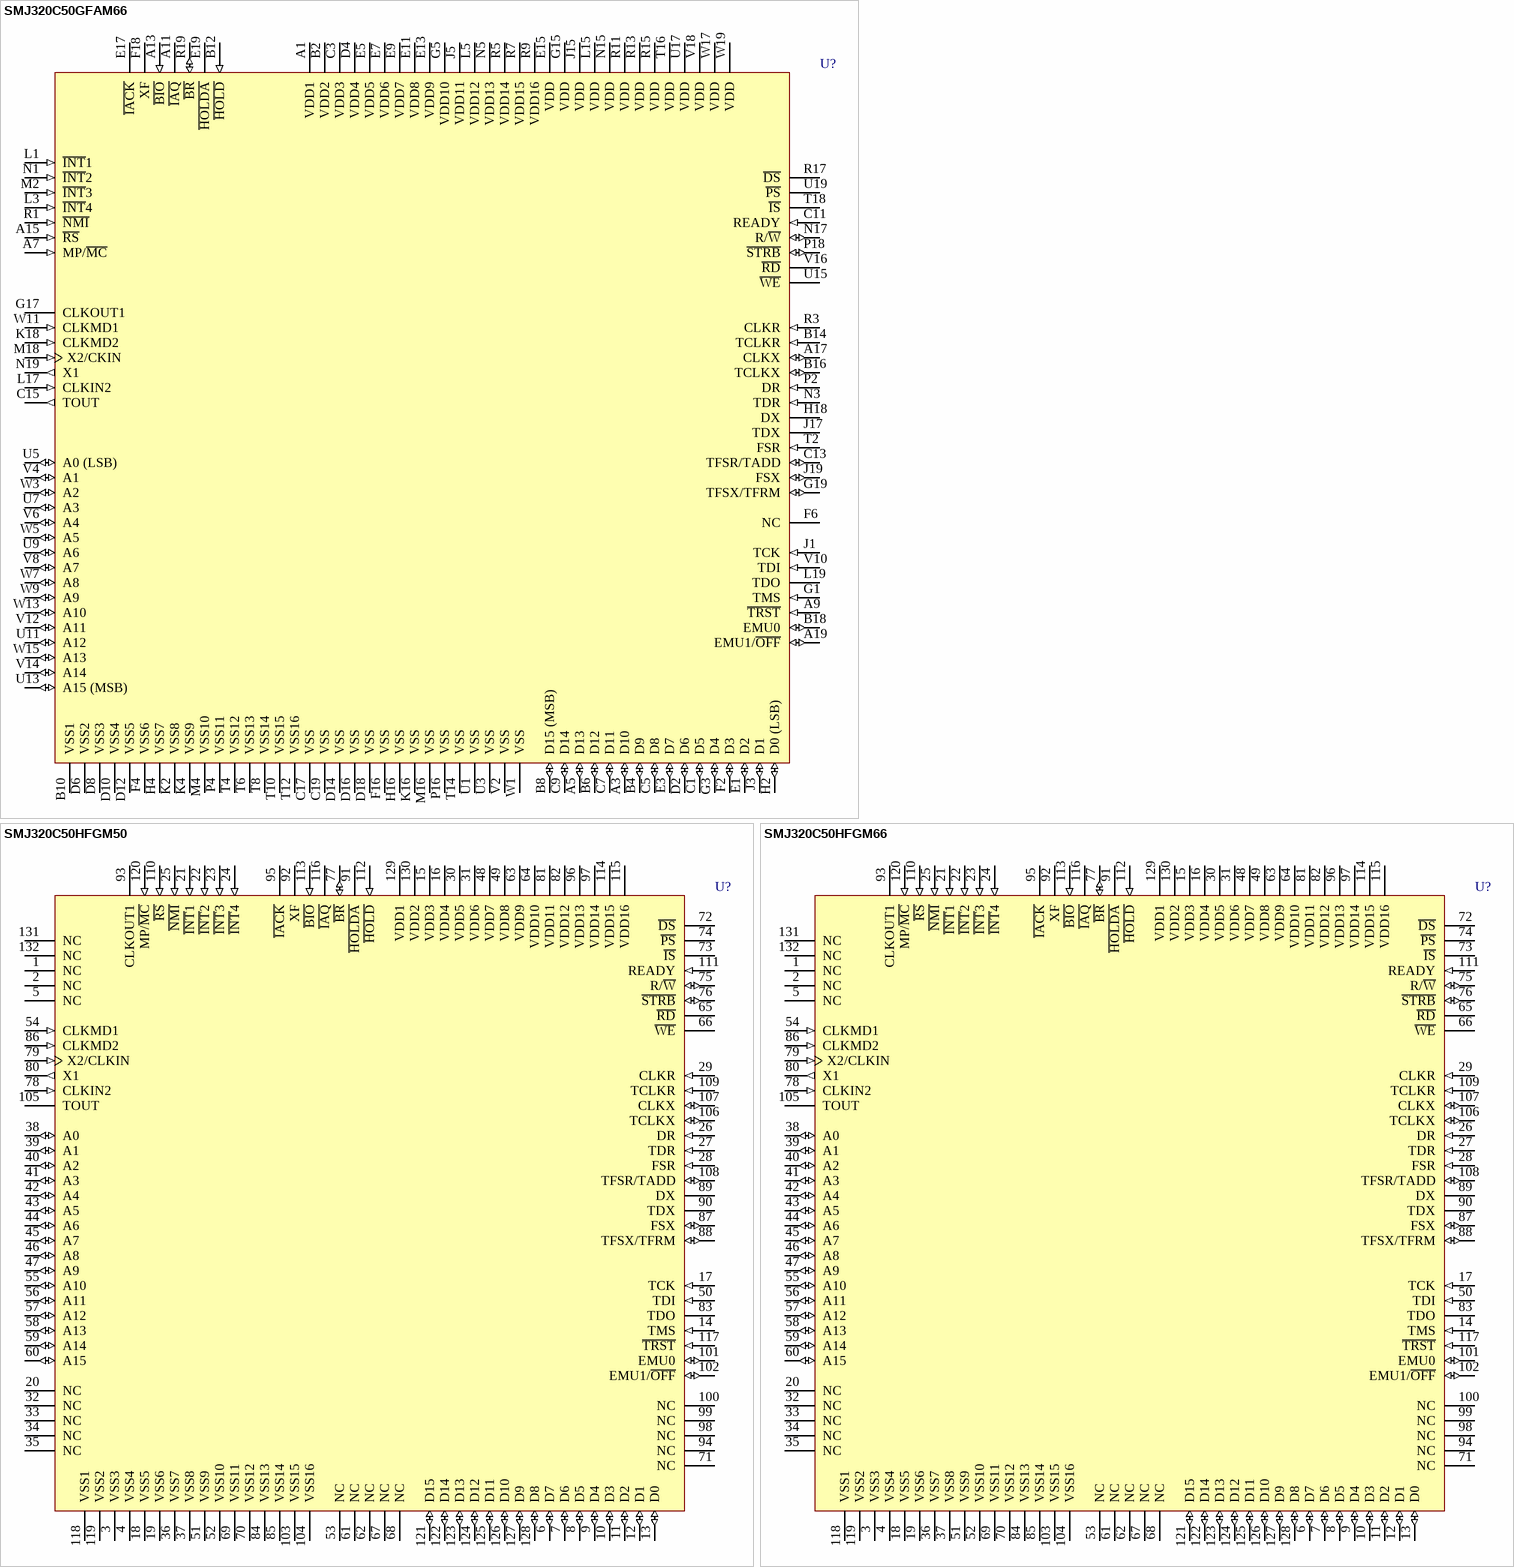
[diagram p4: symbols SMJ320C50GFAM66 to SMJ320C50HFGM66]

## SMJ320C50GFAM66
designator U?
Fixed DSP; Published: 25-Jan-2001; LatestRevisionDate: 08-Jul-2005; LatestRevisionNote: Stylized 3D Model Added.; DatasheetVersion: Jun-1996; PackageVersion: Feb-1996; PackageReference: GFA141; Publisher: Altium Limited; PackageDescription: 141-Pin Pin Grid Array 2.54 mm Pitch; ComponentLink1Description: Manufacturer Link; ComponentLink1URL: http://www.ti.com/; ComponentLink2Description: Datasheet; ComponentLink2URL: http://www-s.ti.com/sc/ds/smj320c50.pdf
footprint GFA141 (PGA, 141-Leads, Body 27x27mm, Pitch 2.54mm)
3D model SMJ320C50-GFA141 (141-Pin Pin Grid Array 2.54 mm Pitch)
pins: A1 VDD1 (power), A3 D10 (io), A5 D13 (io), A7 MP/~{MC} (in), A9 ~{TRST} (in), A11 ~{IAQ} (hiz), A13 ~{BIO} (in), A15 ~{RS} (in), A17 CLKX (io), A19 EMU1/~{OFF} (io), B2 VDD2 (power), B4 D9 (io), B6 D12 (io), B8 D15 (MSB) (io), B10 VSS1 (power), B12 ~{HOLD} (in), B14 TCLKR (in), B16 TCLKX (io), B18 EMU0 (io), C1 D5 (io), C3 VDD3 (power), C5 D8 (io), C7 D11 (io), C9 D14 (io), C11 READY (in), C13 TFSR/TADD (io), C15 TOUT (out), C17 VSS (power), C19 VSS (power), D2 D6 (io), D4 VDD4 (power), D6 VSS2 (power), D8 VSS3 (power), D10 VSS4 (power), D12 VSS5 (power), D14 VSS (power), D16 VSS (power), D18 VSS (power), E1 D2 (io), E3 D7 (io), E5 VDD5 (power), E7 VDD6 (power), E9 VDD7 (power), E11 VDD8 (power), E13 VDD9 (power), E15 VDD (power), E17 ~{IACK} (hiz), E19 ~{HOLDA} (hiz), F2 D3 (io), F4 VSS6 (power), F6 NC, F16 VSS (power), F18 XF (hiz), G1 TMS (in), G3 D4 (io), G5 VDD10 (power), G15 VDD (power), G17 CLKOUT1 (hiz), G19 TFSX/TFRM (io), H2 D0 (LSB) (io), H4 VSS7 (power), H16 VSS (power), H18 DX (hiz), J1 TCK (in), J3 D1 (io), J5 VDD11 (power), J15 VDD (power), J17 TDX (hiz), J19 FSX (io), K2 VSS8 (power), K4 VSS9 (power), K16 VSS (power), K18 CLKMD2 (in), L1 ~{INT}1 (in), L3 ~{INT}4 (in), L5 VDD12 (power), L15 VDD (power), L17 CLKIN2 (in), L19 TDO (hiz), M2 ~{INT}3 (in), M4 VSS10 (power), M16 VSS (power), M18 X2/CKIN (in), N1 ~{INT}2 (in), N3 TDR (in), N5 VDD13 (power), N15 VDD (power), N17 R/~{W} (io), N19 X1 (out), P2 DR (in), P4 VSS11 (power), P16 VSS (power), P18 ~{STRB} (io), R1 ~{NMI} (in), R3 CLKR (in), R5 VDD14 (power), R7 VDD15 (power), R9 VDD16 (power), R11 VDD (power), R13 VDD (power), R15 VDD (power), R17 ~{DS} (hiz), R19 ~{BR} (io), T2 FSR (in), T4 VSS12 (power), T6 VSS13 (power), T8 VSS14 (power), T10 VSS15 (power), T12 VSS16 (power), T14 VSS (power), T16 VDD (power), T18 ~{IS} (hiz), U1 VSS (power), U3 VSS (power), U5 A0 (LSB) (io), U7 A3 (io), U9 A6 (io), U11 A12 (io), U13 A15 (MSB) (io), U15 ~{WE} (hiz), U17 VDD (power), U19 ~{PS} (hiz), V2 VSS (power), V4 A1 (io), V6 A4 (io), V8 A7 (io), V10 TDI (in), V12 A11 (io), V14 A14 (io), V16 ~{RD} (hiz), V18 VDD (power), W1 VSS (power), W3 A2 (io), W5 A5 (io), W7 A8 (io), W9 A9 (io), W11 CLKMD1 (in), W13 A10 (io), W15 A13 (io), W17 VDD (power), W19 VDD (power)

## SMJ320C50HFGM50
designator U?
Fixed DSP; Published: 25-Jan-2001; LatestRevisionDate: 13-Apr-2006; LatestRevisionNote: IPC-7351 Footprint Added.; DatasheetVersion: Jun-1996; PackageVersion: Jun-1999; PackageReference: HFG132; Publisher: Altium Limited; PackageDescription: 132-Pin Ceramic Quad Flat Pack 0.635 mm Pitch; ComponentLink1Description: Manufacturer Link; ComponentLink1URL: http://www.ti.com/; ComponentLink2Description: Datasheet; ComponentLink2URL: http://www-s.ti.com/sc/ds/smj320c50.pdf
footprint HFG132_N (CQFP, 132-Leads, Body 24x24mm; Pitch 0.635mm, Gullwing Leadform, IPC Medium Density)
footprint HFG132_L (CQFP, 132-Leads, Body 24x24mm; Pitch 0.635mm, Gullwing Leadform, IPC High Density)
footprint HFG132_M (CQFP, 132-Leads, Body 24x24mm; Pitch 0.635mm, Gullwing Leadform, IPC Low Density)
3D model SMJ320C50-HFG132 (132-Pin Ceramic Quad Flat Pack 0.635 mm Pitch)
pins: 1 NC, 2 NC, 3 VSS3 (power), 4 VSS4 (power), 5 NC, 6 D7 (io), 7 D6 (io), 8 D5 (io), 9 D4 (io), 10 D3 (io), 11 D2 (io), 12 D1 (io), 13 D0 (io), 14 TMS (in), 15 VDD3 (power), 16 VDD4 (power), 17 TCK (in), 18 VSS5 (power), 19 VSS6 (power), 20 NC, 21 ~{INT}1 (in), 22 ~{INT}2 (in), 23 ~{INT}3 (in), 24 ~{INT}4 (in), 25 ~{NMI} (in), 26 DR (in), 27 TDR (in), 28 FSR (in), 29 CLKR (in), 30 VDD5 (power), 31 VDD6 (power), 32 NC, 33 NC, 34 NC, 35 NC, 36 VSS7 (power), 37 VSS8 (power), 38 A0 (io), 39 A1 (io), 40 A2 (io), 41 A3 (io), 42 A4 (io), 43 A5 (io), 44 A6 (io), 45 A7 (io), 46 A8 (io), 47 A9 (io), 48 VDD7 (power), 49 VDD8 (power), 50 TDI (in), 51 VSS9 (power), 52 VSS10 (power), 53 NC, 54 CLKMD1 (in), 55 A10 (io), 56 A11 (io), 57 A12 (io), 58 A13 (io), 59 A14 (io), 60 A15 (io), 61 NC, 62 NC, 63 VDD9 (power), 64 VDD10 (power), 65 ~{RD} (hiz), 66 ~{WE} (hiz), 67 NC, 68 NC, 69 VSS11 (power), 70 VSS12 (power), 71 NC, 72 ~{DS} (hiz), 73 ~{IS} (hiz), 74 ~{PS} (hiz), 75 R/~{W} (io), 76 ~{STRB} (io), 77 ~{BR} (io), 78 CLKIN2 (in), 79 X2/CLKIN (in), 80 X1 (out), 81 VDD11 (power), 82 VDD12 (power), 83 TDO (hiz), 84 VSS13 (power), 85 VSS14 (power), 86 CLKMD2 (in), 87 FSX (io), 88 TFSX/TFRM (io), 89 DX (hiz), 90 TDX (hiz), 91 ~{HOLDA} (hiz), 92 XF (hiz), 93 CLKOUT1 (hiz), 94 NC, 95 ~{IACK} (hiz), 96 VDD13 (power), 97 VDD14 (power), 98 NC, 99 NC, 100 NC, 101 EMU0 (io), 102 EMU1/~{OFF} (io), 103 VSS15 (power), 104 VSS16 (power), 105 TOUT (hiz), 106 TCLKX (io), 107 CLKX (io), 108 TFSR/TADD (io), 109 TCLKR (in), 110 ~{RS} (in), 111 READY (in), 112 ~{HOLD} (in), 113 ~{BIO} (in), 114 VDD15 (power), 115 VDD16 (power), 116 ~{IAQ} (hiz), 117 ~{TRST} (in), 118 VSS1 (power), 119 VSS2 (power), 120 MP/~{MC} (in), 121 D15 (io), 122 D14 (io), 123 D13 (io), 124 D12 (io), 125 D11 (io), 126 D10 (io), 127 D9 (io), 128 D8 (io), 129 VDD1 (power), 130 VDD2 (power), 131 NC, 132 NC

## SMJ320C50HFGM66
designator U?
Fixed DSP; Published: 25-Jan-2001; LatestRevisionDate: 13-Apr-2006; LatestRevisionNote: IPC-7351 Footprint Added.; DatasheetVersion: Jun-1996; PackageVersion: Jun-1999; PackageReference: HFG132; Publisher: Altium Limited; PackageDescription: 132-Pin Ceramic Quad Flat Pack 0.635 mm Pitch; ComponentLink1Description: Manufacturer Link; ComponentLink1URL: http://www.ti.com/; ComponentLink2Description: Datasheet; ComponentLink2URL: http://www-s.ti.com/sc/ds/smj320c50.pdf
footprint HFG132_N (CQFP, 132-Leads, Body 24x24mm; Pitch 0.635mm, Gullwing Leadform, IPC Medium Density)
footprint HFG132_L (CQFP, 132-Leads, Body 24x24mm; Pitch 0.635mm, Gullwing Leadform, IPC High Density)
footprint HFG132_M (CQFP, 132-Leads, Body 24x24mm; Pitch 0.635mm, Gullwing Leadform, IPC Low Density)
3D model SMJ320C50-HFG132 (132-Pin Ceramic Quad Flat Pack 0.635 mm Pitch)
pins: 1 NC, 2 NC, 3 VSS3 (power), 4 VSS4 (power), 5 NC, 6 D7 (io), 7 D6 (io), 8 D5 (io), 9 D4 (io), 10 D3 (io), 11 D2 (io), 12 D1 (io), 13 D0 (io), 14 TMS (in), 15 VDD3 (power), 16 VDD4 (power), 17 TCK (in), 18 VSS5 (power), 19 VSS6 (power), 20 NC, 21 ~{INT}1 (in), 22 ~{INT}2 (in), 23 ~{INT}3 (in), 24 ~{INT}4 (in), 25 ~{NMI} (in), 26 DR (in), 27 TDR (in), 28 FSR (in), 29 CLKR (in), 30 VDD5 (power), 31 VDD6 (power), 32 NC, 33 NC, 34 NC, 35 NC, 36 VSS7 (power), 37 VSS8 (power), 38 A0 (io), 39 A1 (io), 40 A2 (io), 41 A3 (io), 42 A4 (io), 43 A5 (io), 44 A6 (io), 45 A7 (io), 46 A8 (io), 47 A9 (io), 48 VDD7 (power), 49 VDD8 (power), 50 TDI (in), 51 VSS9 (power), 52 VSS10 (power), 53 NC, 54 CLKMD1 (in), 55 A10 (io), 56 A11 (io), 57 A12 (io), 58 A13 (io), 59 A14 (io), 60 A15 (io), 61 NC, 62 NC, 63 VDD9 (power), 64 VDD10 (power), 65 ~{RD} (hiz), 66 ~{WE} (hiz), 67 NC, 68 NC, 69 VSS11 (power), 70 VSS12 (power), 71 NC, 72 ~{DS} (hiz), 73 ~{IS} (hiz), 74 ~{PS} (hiz), 75 R/~{W} (io), 76 ~{STRB} (io), 77 ~{BR} (io), 78 CLKIN2 (in), 79 X2/CLKIN (in), 80 X1 (out), 81 VDD11 (power), 82 VDD12 (power), 83 TDO (hiz), 84 VSS13 (power), 85 VSS14 (power), 86 CLKMD2 (in), 87 FSX (io), 88 TFSX/TFRM (io), 89 DX (hiz), 90 TDX (hiz), 91 ~{HOLDA} (hiz), 92 XF (hiz), 93 CLKOUT1 (hiz), 94 NC, 95 ~{IACK} (hiz), 96 VDD13 (power), 97 VDD14 (power), 98 NC, 99 NC, 100 NC, 101 EMU0 (io), 102 EMU1/~{OFF} (io), 103 VSS15 (power), 104 VSS16 (power), 105 TOUT (hiz), 106 TCLKX (io), 107 CLKX (io), 108 TFSR/TADD (io), 109 TCLKR (in), 110 ~{RS} (in), 111 READY (in), 112 ~{HOLD} (in), 113 ~{BIO} (in), 114 VDD15 (power), 115 VDD16 (power), 116 ~{IAQ} (hiz), 117 ~{TRST} (in), 118 VSS1 (power), 119 VSS2 (power), 120 MP/~{MC} (in), 121 D15 (io), 122 D14 (io), 123 D13 (io), 124 D12 (io), 125 D11 (io), 126 D10 (io), 127 D9 (io), 128 D8 (io), 129 VDD1 (power), 130 VDD2 (power), 131 NC, 132 NC

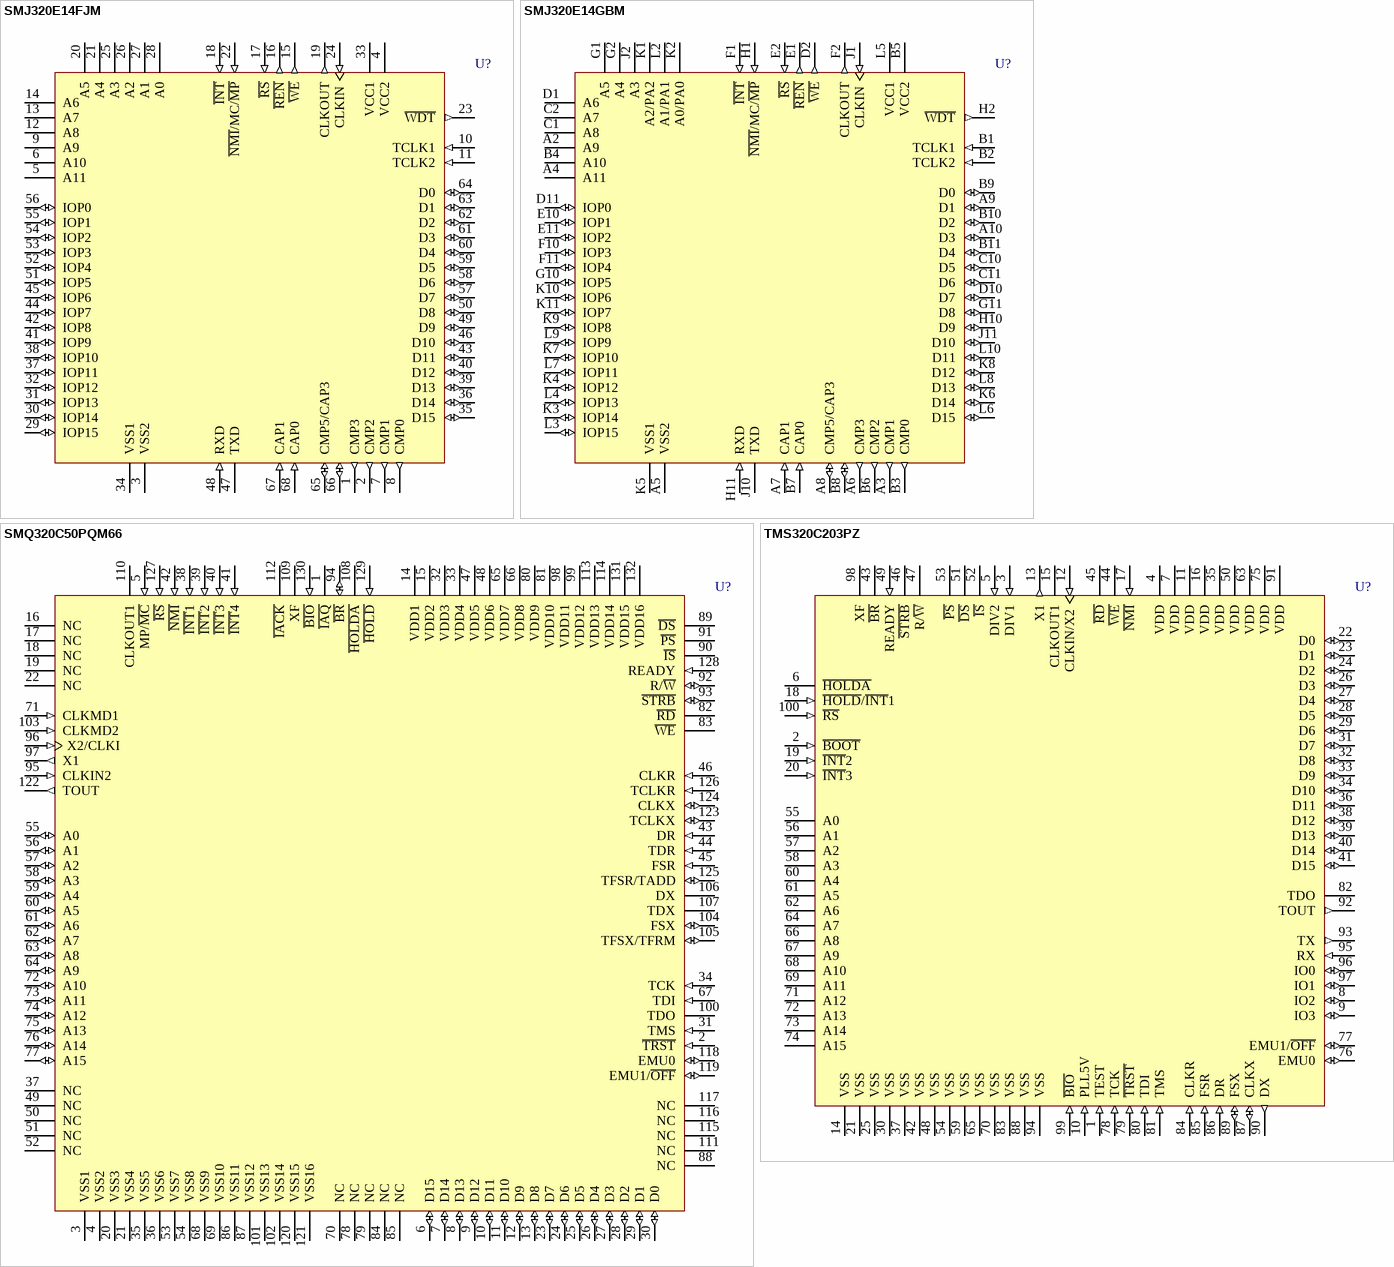
[diagram p5: symbols SMJ320E14FJM to TMS320C203PZ]

## SMJ320E14FJM
designator U?
Fixed DSP; ComponentAvailability: Obsolete; Published: 25-Jan-2001; LatestRevisionDate: 13-Apr-2006; LatestRevisionNote: IPC-7351 Footprint Added.; DatasheetVersion: Sep-1992; PackageVersion: Jun-1999; PackageReference: FJ68; Publisher: Altium Limited; PackageDescription: 68-Pin Leaded Chip Carrier 1.27 mm Pitch; ComponentLink1Description: Manufacturer Link; ComponentLink1URL: http://www.ti.com/; ComponentLink2Description: Discontinuation Notice; ComponentLink2URL: http://focus.ti.com/pdfs/mltry/obsolete.pdf
footprint FJ68_N (Leaded Chip Carrier, 68-Leads, Body 24x24mm, Pitch 1.27mm, IPC Medium Density)
footprint FJ68_L (Leaded Chip Carrier, 68-Leads, Body 24x24mm, Pitch 1.27mm, IPC High Density)
footprint FJ68_M (Leaded Chip Carrier, 68-Leads, Body 24x24mm, Pitch 1.27mm, IPC Low Density)
3D model SMJ320E14-FJ68 (68-Pin Leaded Chip Carrier 1.27 mm Pitch)
pins: 1 CMP3 (out), 2 CMP2 (out), 3 VSS2 (power), 4 VCC2 (power), 5 A11 (hiz), 6 A10 (hiz), 7 CMP1 (out), 8 CMP0 (out), 9 A9 (hiz), 10 TCLK1 (in), 11 TCLK2 (in), 12 A8 (hiz), 13 A7 (hiz), 14 A6 (hiz), 15 ~{WE} (out), 16 ~{REN} (out), 17 ~{RS} (in), 18 ~{INT} (in), 19 CLKOUT (out), 20 A5 (hiz), 21 A4 (hiz), 22 ~{NMI}/MC/~{MP} (in), 23 ~{WDT} (out), 24 CLKIN (in), 25 A3 (hiz), 26 A2 (hiz), 27 A1 (hiz), 28 A0 (hiz), 29 IOP15 (io), 30 IOP14 (io), 31 IOP13 (io), 32 IOP12 (io), 33 VCC1 (power), 34 VSS1 (power), 35 D15 (io), 36 D14 (io), 37 IOP11 (io), 38 IOP10 (io), 39 D13 (io), 40 D12 (io), 41 IOP9 (io), 42 IOP8 (io), 43 D11 (io), 44 IOP7 (io), 45 IOP6 (io), 46 D10 (io), 47 TXD (hiz), 48 RXD (in), 49 D9 (io), 50 D8 (io), 51 IOP5 (io), 52 IOP4 (io), 53 IOP3 (io), 54 IOP2 (io), 55 IOP1 (io), 56 IOP0 (io), 57 D7 (io), 58 D6 (io), 59 D5 (io), 60 D4 (io), 61 D3 (io), 62 D2 (io), 63 D1 (io), 64 D0 (io), 65 CMP5/CAP3 (io), 66 CMP4/CAP2 (io), 67 CAP1 (in), 68 CAP0 (in)

## SMJ320E14GBM
designator U?
Fixed DSP; ComponentAvailability: Obsolete; Published: 25-Jan-2001; LatestRevisionDate: 08-Jul-2005; LatestRevisionNote: Stylized 3D Model Added.; DatasheetVersion: Sep-1992; PackageVersion: Sep-1992; PackageReference: GB68; Publisher: Altium Limited; PackageDescription: 68-Pin Pin Grid Array 2.54 mm Pitch; ComponentLink1Description: Manufacturer Link; ComponentLink1URL: http://www.ti.com/; ComponentLink2Description: Discontinuation Notice; ComponentLink2URL: http://focus.ti.com/pdfs/mltry/obsolete.pdf
footprint GB68 (PGA, 68-Leads, Body 28x28mm, Pitch 2.54mm)
3D model SMJ320E14-GB68 (68-Pin Pin Grid Array 2.54 mm Pitch)
pins: A2 A9 (hiz), A3 CMP1 (out), A4 A11 (hiz), A5 VSS2 (power), A6 CMP3 (out), A7 CAP1 (in), A8 CMP5/CAP3 (io), A9 D1 (io), A10 D3 (io), B1 TCLK1 (in), B2 TCLK2 (in), B3 CMP0 (out), B4 A10 (hiz), B5 VCC2 (power), B6 CMP2 (out), B7 CAP0 (in), B8 CMP4/CAP2 (io), B9 D0 (io), B10 D2 (io), B11 D4 (io), C1 A8 (hiz), C2 A7 (hiz), C10 D5 (io), C11 D6 (io), D1 A6 (hiz), D2 ~{WE} (out), D10 D7 (io), D11 IOP0 (io), E1 ~{REN} (out), E2 ~{RS} (in), E10 IOP1 (io), E11 IOP2 (io), F1 ~{INT} (in), F2 CLKOUT (out), F10 IOP3 (io), F11 IOP4 (io), G1 A5 (hiz), G2 A4 (hiz), G10 IOP5 (io), G11 D8 (io), H1 ~{NMI}/MC/~{MP} (in), H2 ~{WDT} (out), H10 D9 (io), H11 RXD (in), J1 CLKIN (in), J2 A3 (hiz), J10 TXD (hiz), J11 D10 (io), K1 A2/PA2 (hiz), K2 A0/PA0 (hiz), K3 IOP14 (io), K4 IOP12 (io), K5 VSS1 (power), K6 D14 (io), K7 IOP10 (io), K8 D12 (io), K9 IOP8 (io), K10 IOP6 (io), K11 IOP7 (io), L2 A1/PA1 (hiz), L3 IOP15 (io), L4 IOP13 (io), L5 VCC1 (power), L6 D15 (io), L7 IOP11 (io), L8 D13 (io), L9 IOP9 (io), L10 D11 (io)

## SMQ320C50PQM66
designator U?
Fixed DSP; Published: 25-Jan-2001; LatestRevisionDate: 17-Jul-2002; LatestRevisionNote: Re-released for DXP Platform.; DatasheetVersion: Jun-1996; PackageVersion: Nov-1995; PackageReference: PQ132; Publisher: Altium Limited; PackageDescription: PQFP; 132 Leads; Body 24 x 24 mm; Pitch 0.635 mm; Code_JEDEC: MO-069; ComponentLink1Description: Manufacturer Link; ComponentLink1URL: http://www.ti.com/; ComponentLink2Description: Datasheet; ComponentLink2URL: http://www-s.ti.com/sc/ds/smj320c50.pdf
footprint PQ132 (PQFP; 132 Leads; Body 24 x 24 mm; Pitch 0.635 mm)
pins: 1 ~{IAQ} (hiz), 2 ~{TRST} (in), 3 VSS1 (power), 4 VSS2 (power), 5 MP/~{MC} (in), 6 D15 (io), 7 D14 (io), 8 D13 (io), 9 D12 (io), 10 D11 (io), 11 D10 (io), 12 D9 (io), 13 D8 (io), 14 VDD1 (power), 15 VDD2 (power), 16 NC, 17 NC, 18 NC, 19 NC, 20 VSS3 (power), 21 VSS4 (power), 22 NC, 23 D7 (io), 24 D6 (io), 25 D5 (io), 26 D4 (io), 27 D3 (io), 28 D2 (io), 29 D1 (io), 30 D0 (io), 31 TMS (in), 32 VDD3 (power), 33 VDD4 (power), 34 TCK (in), 35 VSS5 (power), 36 VSS6 (power), 37 NC, 38 ~{INT}1 (in), 39 ~{INT}2 (in), 40 ~{INT}3 (in), 41 ~{INT}4 (in), 42 ~{NMI} (in), 43 DR (in), 44 TDR (in), 45 FSR (in), 46 CLKR (in), 47 VDD5 (power), 48 VDD6 (power), 49 NC, 50 NC, 51 NC, 52 NC, 53 VSS7 (power), 54 VSS8 (power), 55 A0 (io), 56 A1 (io), 57 A2 (io), 58 A3 (io), 59 A4 (io), 60 A5 (io), 61 A6 (io), 62 A7 (io), 63 A8 (io), 64 A9 (io), 65 VDD7 (power), 66 VDD8 (power), 67 TDI (in), 68 VSS9 (power), 69 VSS10 (power), 70 NC, 71 CLKMD1 (in), 72 A10 (io), 73 A11 (io), 74 A12 (io), 75 A13 (io), 76 A14 (io), 77 A15 (io), 78 NC, 79 NC, 80 VDD9 (power), 81 VDD10 (power), 82 ~{RD} (hiz), 83 ~{WE} (hiz), 84 NC, 85 NC, 86 VSS11 (power), 87 VSS12 (power), 88 NC, 89 ~{DS} (hiz), 90 ~{IS} (hiz), 91 ~{PS} (hiz), 92 R/~{W} (io), 93 ~{STRB} (io), 94 ~{BR} (io), 95 CLKIN2 (in), 96 X2/CLKI (in), 97 X1 (out), 98 VDD11 (power), 99 VDD12 (power), 100 TDO (hiz), 101 VSS13 (power), 102 VSS14 (power), 103 CLKMD2 (in), 104 FSX (io), 105 TFSX/TFRM (io), 106 DX (hiz), 107 TDX (hiz), 108 ~{HOLDA} (hiz), 109 XF (hiz), 110 CLKOUT1 (hiz), 111 NC, 112 ~{IACK} (hiz), 113 VDD13 (power), 114 VDD14 (power), 115 NC, 116 NC, 117 NC, 118 EMU0 (io), 119 EMU1/~{OFF} (io), 120 VSS15 (power), 121 VSS16 (power), 122 TOUT (out), 123 TCLKX (io), 124 CLKX (io), 125 TFSR/TADD (io), 126 TCLKR (in), 127 ~{RS} (in), 128 READY (in), 129 ~{HOLD} (in), 130 ~{BIO} (in), 131 VDD15 (power), 132 VDD16 (power)

## TMS320C203PZ
designator U?
Fixed DSP; Published: 25-Jan-2001; LatestRevisionDate: 13-Apr-2006; LatestRevisionNote: IPC-7351 Footprint Added.; DatasheetVersion: Aug-1998; PackageVersion: Dec-1996; PackageReference: PZ100; Publisher: Altium Limited; PackageDescription: 100-Pin Thin Quad Flat Pack 0.5 mm Pitch; ComponentLink1Description: Manufacturer Link; ComponentLink1URL: http://www.ti.com/; ComponentLink2Description: Datasheet; ComponentLink2URL: http://www-s.ti.com/sc/ds/tms320c203.pdf
footprint PZ100_N (Thin QFP, 100-Leads, Body 14x14mm, Pitch 0.5mm, IPC Medium Density)
footprint PZ100_L (Thin QFP, 100-Leads, Body 14x14mm, Pitch 0.5mm, IPC High Density)
footprint PZ100_M (Thin QFP, 100-Leads, Body 14x14mm, Pitch 0.5mm, IPC Low Density)
3D model TMS320C203-PZ100 (100-Pin Thin Quad Flat Pack 0.5 mm Pitch)
pins: 1 TEST (in), 2 ~{BOOT} (in), 3 DIV1 (in), 4 VDD (power), 5 DIV2 (in), 6 ~{HOLDA} (hiz), 7 VDD (power), 8 IO2 (io), 9 IO3 (io), 10 PLL5V (in), 11 VDD (power), 12 CLKIN/X2 (in), 13 X1 (out), 14 VSS (power), 15 CLKOUT1 (hiz), 16 VDD (power), 17 ~{NMI} (in), 18 ~{HOLD}/~{INT}1 (in), 19 ~{INT}2 (in), 20 ~{INT}3 (in), 21 VSS (power), 22 D0 (io), 23 D1 (io), 24 D2 (io), 25 VSS (power), 26 D3 (io), 27 D4 (io), 28 D5 (io), 29 D6 (io), 30 VSS (power), 31 D7 (io), 32 D8 (io), 33 D9 (io), 34 D10 (io), 35 VDD (power), 36 D11 (io), 37 VSS (power), 38 D12 (io), 39 D13 (io), 40 D14 (io), 41 D15 (io), 42 VSS (power), 43 ~{BR} (hiz), 44 ~{WE} (hiz), 45 ~{RD} (hiz), 46 ~{STRB} (hiz), 47 R/~{W} (hiz), 48 VSS (power), 49 READY (in), 50 VDD (power), 51 ~{DS} (hiz), 52 ~{IS} (hiz), 53 ~{PS} (hiz), 54 VSS (power), 55 A0 (hiz), 56 A1 (hiz), 57 A2 (hiz), 58 A3 (hiz), 59 VSS (power), 60 A4 (hiz), 61 A5 (hiz), 62 A6 (hiz), 63 VDD (power), 64 A7 (hiz), 65 VSS (power), 66 A8 (hiz), 67 A9 (hiz), 68 A10 (hiz), 69 A11 (hiz), 70 VSS (power), 71 A12 (hiz), 72 A13 (hiz), 73 A14 (hiz), 74 A15 (hiz), 75 VDD (power), 76 EMU0 (io), 77 EMU1/~{OFF} (io), 78 TCK (in), 79 ~{TRST} (in), 80 TDI (in), 81 TMS (in), 82 TDO (hiz), 83 VSS (power), 84 CLKR (in), 85 FSR (in), 86 DR (in), 87 CLKX (io), 88 VSS (power), 89 FSX (io), 90 DX (out), 91 VDD (power), 92 TOUT (out), 93 TX (out), 94 VSS (power), 95 RX (in), 96 IO0 (io), 97 IO1 (io), 98 XF (hiz), 99 ~{BIO} (in), 100 ~{RS} (in)

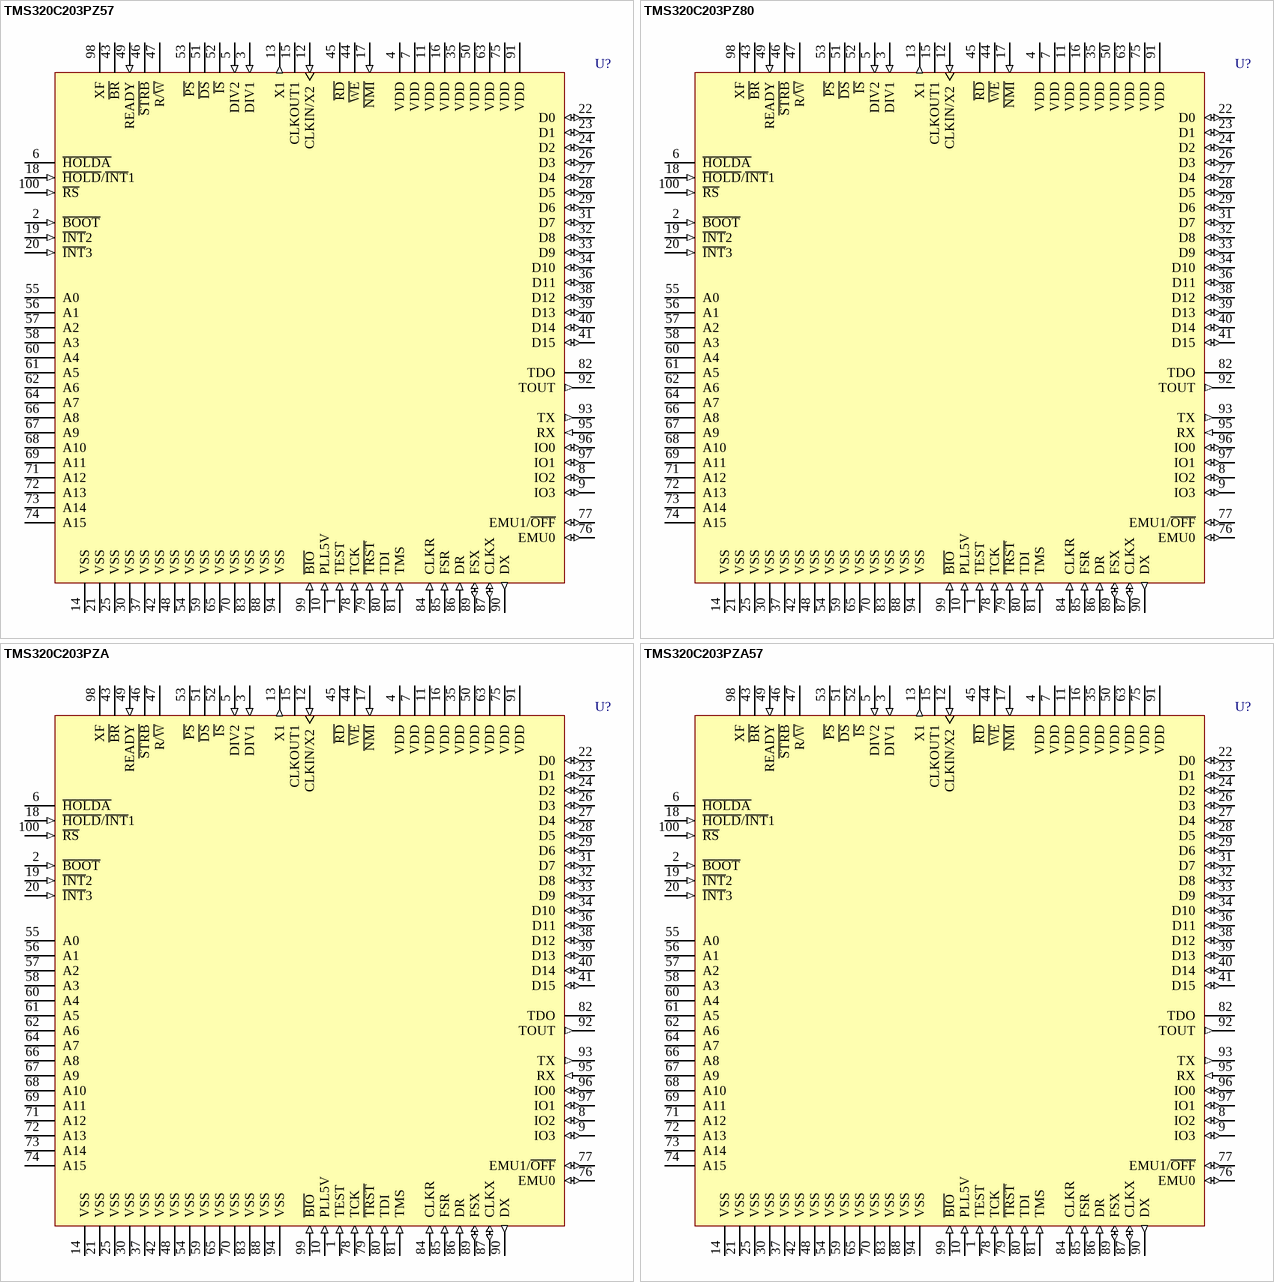
[diagram p6: symbols TMS320C203PZ57 to TMS320C203PZA57]

## TMS320C203PZ57
designator U?
Fixed DSP; Published: 25-Jan-2001; LatestRevisionDate: 13-Apr-2006; LatestRevisionNote: IPC-7351 Footprint Added.; DatasheetVersion: Aug-1998; PackageVersion: Dec-1996; PackageReference: PZ100; Publisher: Altium Limited; PackageDescription: 100-Pin Thin Quad Flat Pack 0.5 mm Pitch; ComponentLink1Description: Manufacturer Link; ComponentLink1URL: http://www.ti.com/; ComponentLink2Description: Datasheet; ComponentLink2URL: http://www-s.ti.com/sc/ds/tms320c203.pdf
footprint PZ100_N (Thin QFP, 100-Leads, Body 14x14mm, Pitch 0.5mm, IPC Medium Density)
footprint PZ100_L (Thin QFP, 100-Leads, Body 14x14mm, Pitch 0.5mm, IPC High Density)
footprint PZ100_M (Thin QFP, 100-Leads, Body 14x14mm, Pitch 0.5mm, IPC Low Density)
3D model TMS320C203-PZ100 (100-Pin Thin Quad Flat Pack 0.5 mm Pitch)
pins: 1 TEST (in), 2 ~{BOOT} (in), 3 DIV1 (in), 4 VDD (power), 5 DIV2 (in), 6 ~{HOLDA} (hiz), 7 VDD (power), 8 IO2 (io), 9 IO3 (io), 10 PLL5V (in), 11 VDD (power), 12 CLKIN/X2 (in), 13 X1 (out), 14 VSS (power), 15 CLKOUT1 (hiz), 16 VDD (power), 17 ~{NMI} (in), 18 ~{HOLD}/~{INT}1 (in), 19 ~{INT}2 (in), 20 ~{INT}3 (in), 21 VSS (power), 22 D0 (io), 23 D1 (io), 24 D2 (io), 25 VSS (power), 26 D3 (io), 27 D4 (io), 28 D5 (io), 29 D6 (io), 30 VSS (power), 31 D7 (io), 32 D8 (io), 33 D9 (io), 34 D10 (io), 35 VDD (power), 36 D11 (io), 37 VSS (power), 38 D12 (io), 39 D13 (io), 40 D14 (io), 41 D15 (io), 42 VSS (power), 43 ~{BR} (hiz), 44 ~{WE} (hiz), 45 ~{RD} (hiz), 46 ~{STRB} (hiz), 47 R/~{W} (hiz), 48 VSS (power), 49 READY (in), 50 VDD (power), 51 ~{DS} (hiz), 52 ~{IS} (hiz), 53 ~{PS} (hiz), 54 VSS (power), 55 A0 (hiz), 56 A1 (hiz), 57 A2 (hiz), 58 A3 (hiz), 59 VSS (power), 60 A4 (hiz), 61 A5 (hiz), 62 A6 (hiz), 63 VDD (power), 64 A7 (hiz), 65 VSS (power), 66 A8 (hiz), 67 A9 (hiz), 68 A10 (hiz), 69 A11 (hiz), 70 VSS (power), 71 A12 (hiz), 72 A13 (hiz), 73 A14 (hiz), 74 A15 (hiz), 75 VDD (power), 76 EMU0 (io), 77 EMU1/~{OFF} (io), 78 TCK (in), 79 ~{TRST} (in), 80 TDI (in), 81 TMS (in), 82 TDO (hiz), 83 VSS (power), 84 CLKR (in), 85 FSR (in), 86 DR (in), 87 CLKX (io), 88 VSS (power), 89 FSX (io), 90 DX (out), 91 VDD (power), 92 TOUT (out), 93 TX (out), 94 VSS (power), 95 RX (in), 96 IO0 (io), 97 IO1 (io), 98 XF (hiz), 99 ~{BIO} (in), 100 ~{RS} (in)